# Altium schematic symbol library kmilo17pet-NSC_Interface.SchLib: 1433 symbols (part 19 of 51)
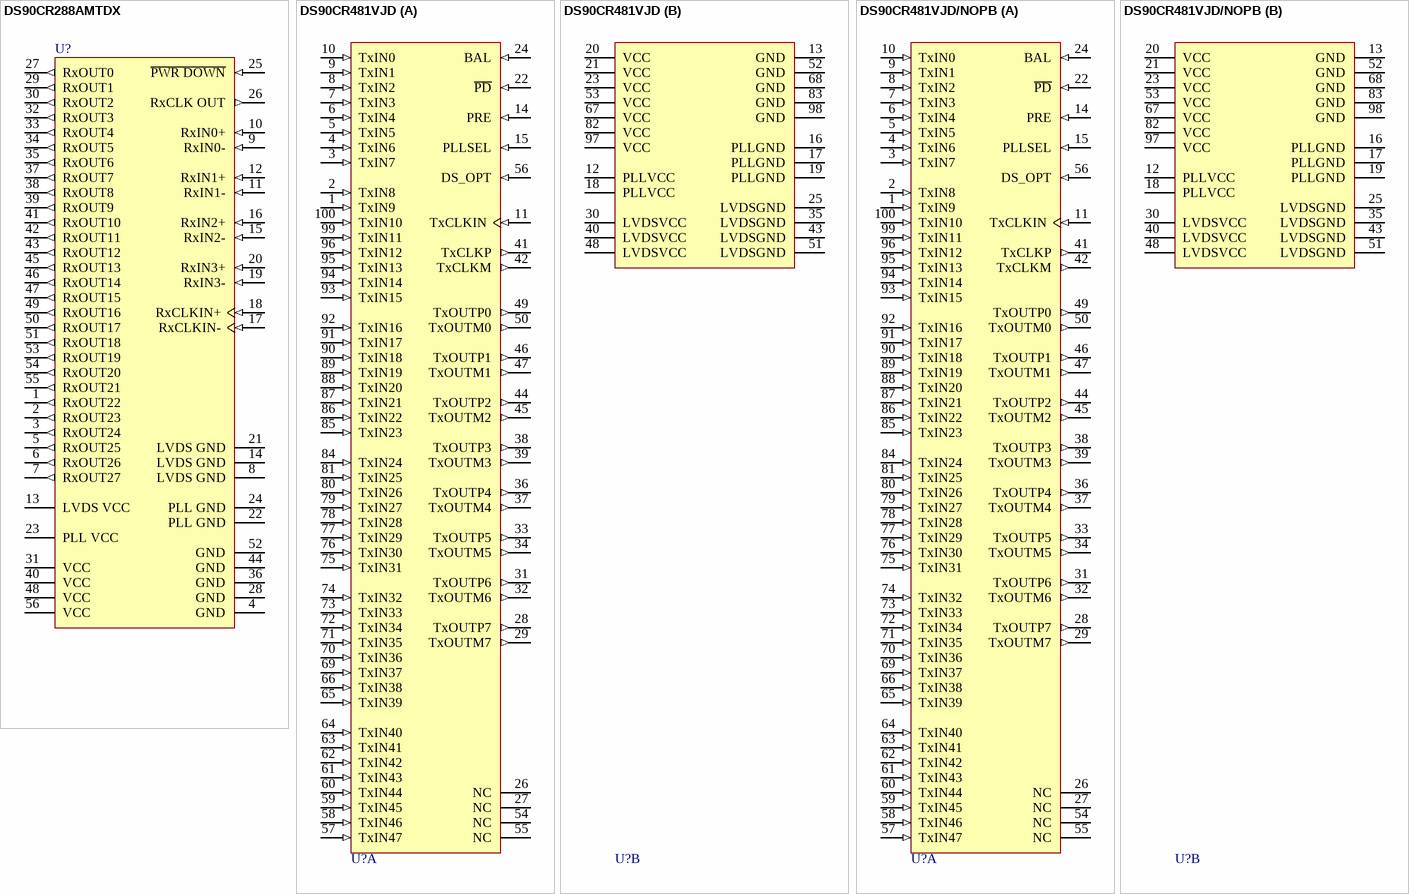
[diagram p142: symbols DS90CR288AMTDX to DS90CR481VJD/NOPB]

## DS90CR481VJD
designator U?
48-Bit LVDS Channel Link Serializer - 65 - 112 MHz, 100-pin TQFP; PartNumber: DS90CR481VJD; Manufacturer: National Semiconductor; PackageTopMarking: NS2ZXYYTTE#*DS90CR481VJD*BBBBB; PowerWise: N; CompType: Interface IC; High-Reliability: Y; DatasheetVersion: Jan-2006; PackageVersion: revC, May-2004; PackageReference: VJD100A; PackageDescription: TQFP, Jedec, Metric, 14 x 14 x 1.0mm, 100 Lead; RoHS: N; PinCount: 100; Code_JEDEC: MS-026-AED; ComponentLink1Description: Manufacturer URL; ComponentLink1URL: http://www.national.com/; ComponentLink2Description: DS90CR481 Datasheet; ComponentLink2URL: http://www.national.com/ds/DS/DS90CR481.pdf; ComponentLink3Description: DS90CR481 Web Page; ComponentLink3URL: http://www.national.com/pf/DS/DS90CR481.html; ComponentLink4Description: VJD100A Package Page; ComponentLink4URL: http://www.national.com/packaging/folders/vjd100a.html
footprint VJD100A_N (Thin QFP, 100-Leads, Body 14x14mm, Pitch 0.5mm, IPC Medium Density)
footprint VJD100A_L (Thin QFP, 100-Leads, Body 14x14mm, Pitch 0.5mm, IPC High Density)
footprint VJD100A_M (Thin QFP, 100-Leads, Body 14x14mm, Pitch 0.5mm, IPC Low Density)
part A pins: 1 TxIN9 (in), 2 TxIN8 (in), 3 TxIN7 (in), 4 TxIN6 (in), 5 TxIN5 (in), 6 TxIN4 (in), 7 TxIN3 (in), 8 TxIN2 (in), 9 TxIN1 (in), 10 TxIN0 (in), 11 TxCLKIN (in), 14 PRE (in), 15 PLLSEL (in), 22 ~{PD} (in), 24 BAL (in), 26 NC, 27 NC, 28 TxOUTP7 (out), 29 TxOUTM7 (out), 31 TxOUTP6 (out), 32 TxOUTM6 (out), 33 TxOUTP5 (out), 34 TxOUTM5 (out), 36 TxOUTP4 (out), 37 TxOUTM4 (out), 38 TxOUTP3 (out), 39 TxOUTM3 (out), 41 TxCLKP (out), 42 TxCLKM (out), 44 TxOUTP2 (out), 45 TxOUTM2 (out), 46 TxOUTP1 (out), 47 TxOUTM1 (out), 49 TxOUTP0 (out), 50 TxOUTM0 (out), 54 NC, 55 NC, 56 DS_OPT (in), 57 TxIN47 (in), 58 TxIN46 (in), 59 TxIN45 (in), 60 TxIN44 (in), 61 TxIN43 (in), 62 TxIN42 (in), 63 TxIN41 (in), 64 TxIN40 (in), 65 TxIN39 (in), 66 TxIN38 (in), 69 TxIN37 (in), 70 TxIN36 (in), 71 TxIN35 (in), 72 TxIN34 (in), 73 TxIN33 (in), 74 TxIN32 (in), 75 TxIN31 (in), 76 TxIN30 (in), 77 TxIN29 (in), 78 TxIN28 (in), 79 TxIN27 (in), 80 TxIN26 (in), 81 TxIN25 (in), 84 TxIN24 (in), 85 TxIN23 (in), 86 TxIN22 (in), 87 TxIN21 (in), 88 TxIN20 (in), 89 TxIN19 (in), 90 TxIN18 (in), 91 TxIN17 (in), 92 TxIN16 (in), 93 TxIN15 (in), 94 TxIN14 (in), 95 TxIN13 (in), 96 TxIN12 (in), 99 TxIN11 (in), 100 TxIN10 (in)
part B pins: 12 PLLVCC (power), 13 GND (power), 16 PLLGND (power), 17 PLLGND (power), 18 PLLVCC (power), 19 PLLGND (power), 20 VCC (power), 21 VCC (power), 23 VCC (power), 25 LVDSGND (power), 30 LVDSVCC (power), 35 LVDSGND (power), 40 LVDSVCC (power), 43 LVDSGND (power), 48 LVDSVCC (power), 51 LVDSGND (power), 52 GND (power), 53 VCC (power), 67 VCC (power), 68 GND (power), 82 VCC (power), 83 GND (power), 97 VCC (power), 98 GND (power)

## DS90CR481VJD/NOPB
designator U?
48-Bit LVDS Channel Link Serializer - 65 - 112 MHz, 100-pin TQFP, Pb-Free; PartNumber: DS90CR481VJD/NOPB; Manufacturer: National Semiconductor; PackageTopMarking: NS2ZXYYTTE#*DS90CR481VJD*BBBBB; PowerWise: N; CompType: Interface IC; High-Reliability: Y; DatasheetVersion: Jan-2006; PackageVersion: revC, May-2004; PackageReference: VJD100A; PackageDescription: TQFP, Jedec, Metric, 14 x 14 x 1.0mm, 100 Lead; RoHS: Y; PinCount: 100; Code_JEDEC: MS-026-AED; ComponentLink1Description: Manufacturer URL; ComponentLink1URL: http://www.national.com/; ComponentLink2Description: DS90CR481 Datasheet; ComponentLink2URL: http://www.national.com/ds/DS/DS90CR481.pdf; ComponentLink3Description: DS90CR481 Web Page; ComponentLink3URL: http://www.national.com/pf/DS/DS90CR481.html; ComponentLink4Description: VJD100A Package Page; ComponentLink4URL: http://www.national.com/packaging/folders/vjd100a.html
footprint VJD100A_N (Thin QFP, 100-Leads, Body 14x14mm, Pitch 0.5mm, IPC Medium Density)
footprint VJD100A_L (Thin QFP, 100-Leads, Body 14x14mm, Pitch 0.5mm, IPC High Density)
footprint VJD100A_M (Thin QFP, 100-Leads, Body 14x14mm, Pitch 0.5mm, IPC Low Density)
part A pins: 1 TxIN9 (in), 2 TxIN8 (in), 3 TxIN7 (in), 4 TxIN6 (in), 5 TxIN5 (in), 6 TxIN4 (in), 7 TxIN3 (in), 8 TxIN2 (in), 9 TxIN1 (in), 10 TxIN0 (in), 11 TxCLKIN (in), 14 PRE (in), 15 PLLSEL (in), 22 ~{PD} (in), 24 BAL (in), 26 NC, 27 NC, 28 TxOUTP7 (out), 29 TxOUTM7 (out), 31 TxOUTP6 (out), 32 TxOUTM6 (out), 33 TxOUTP5 (out), 34 TxOUTM5 (out), 36 TxOUTP4 (out), 37 TxOUTM4 (out), 38 TxOUTP3 (out), 39 TxOUTM3 (out), 41 TxCLKP (out), 42 TxCLKM (out), 44 TxOUTP2 (out), 45 TxOUTM2 (out), 46 TxOUTP1 (out), 47 TxOUTM1 (out), 49 TxOUTP0 (out), 50 TxOUTM0 (out), 54 NC, 55 NC, 56 DS_OPT (in), 57 TxIN47 (in), 58 TxIN46 (in), 59 TxIN45 (in), 60 TxIN44 (in), 61 TxIN43 (in), 62 TxIN42 (in), 63 TxIN41 (in), 64 TxIN40 (in), 65 TxIN39 (in), 66 TxIN38 (in), 69 TxIN37 (in), 70 TxIN36 (in), 71 TxIN35 (in), 72 TxIN34 (in), 73 TxIN33 (in), 74 TxIN32 (in), 75 TxIN31 (in), 76 TxIN30 (in), 77 TxIN29 (in), 78 TxIN28 (in), 79 TxIN27 (in), 80 TxIN26 (in), 81 TxIN25 (in), 84 TxIN24 (in), 85 TxIN23 (in), 86 TxIN22 (in), 87 TxIN21 (in), 88 TxIN20 (in), 89 TxIN19 (in), 90 TxIN18 (in), 91 TxIN17 (in), 92 TxIN16 (in), 93 TxIN15 (in), 94 TxIN14 (in), 95 TxIN13 (in), 96 TxIN12 (in), 99 TxIN11 (in), 100 TxIN10 (in)
part B pins: 12 PLLVCC (power), 13 GND (power), 16 PLLGND (power), 17 PLLGND (power), 18 PLLVCC (power), 19 PLLGND (power), 20 VCC (power), 21 VCC (power), 23 VCC (power), 25 LVDSGND (power), 30 LVDSVCC (power), 35 LVDSGND (power), 40 LVDSVCC (power), 43 LVDSGND (power), 48 LVDSVCC (power), 51 LVDSGND (power), 52 GND (power), 53 VCC (power), 67 VCC (power), 68 GND (power), 82 VCC (power), 83 GND (power), 97 VCC (power), 98 GND (power)

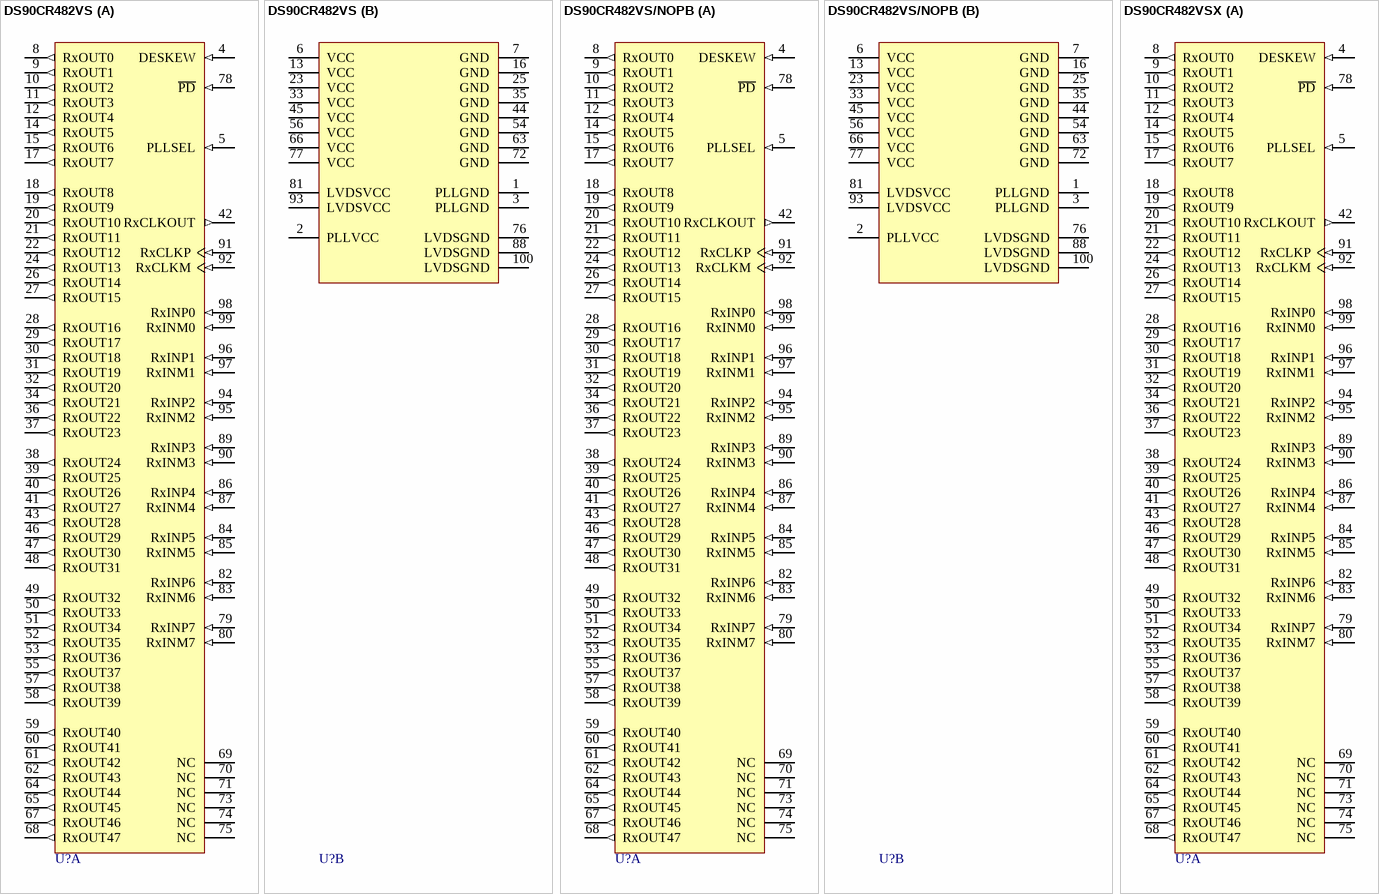
[diagram p49: symbols DS90CR482VS to DS90CR482VSX]

## DS90CR482VS
designator U?
48-Bit LVDS Channel Link Deserializer - 65 - 112 MHz, 100-pin TQFP; PartNumber: DS90CR482VS; Manufacturer: National Semiconductor; PackageTopMarking: NS2ZXYYTTE#*DS90CR482VS*BBBBB; PowerWise: N; CompType: Interface IC; High-Reliability: Y; DatasheetVersion: Jan-2006; PackageVersion: revC, May-2004; PackageReference: VJD100A; PackageDescription: TQFP, Jedec, Metric, 14 x 14 x 1.0mm, 100 Lead; RoHS: N; PinCount: 100; Code_JEDEC: MS-026-AED; ComponentLink1Description: Manufacturer URL; ComponentLink1URL: http://www.national.com/; ComponentLink2Description: DS90CR482 Datasheet; ComponentLink2URL: http://www.national.com/ds/DS/DS90CR482.pdf; ComponentLink3Description: DS90CR482 Web Page; ComponentLink3URL: http://www.national.com/pf/DS/DS90CR482.html; ComponentLink4Description: VJD100A Package Page; ComponentLink4URL: http://www.national.com/packaging/folders/vjd100a.html
footprint VJD100A_N (Thin QFP, 100-Leads, Body 14x14mm, Pitch 0.5mm, IPC Medium Density)
footprint VJD100A_L (Thin QFP, 100-Leads, Body 14x14mm, Pitch 0.5mm, IPC High Density)
footprint VJD100A_M (Thin QFP, 100-Leads, Body 14x14mm, Pitch 0.5mm, IPC Low Density)
part A pins: 4 DESKEW (in), 5 PLLSEL (in), 8 RxOUT0 (out), 9 RxOUT1 (out), 10 RxOUT2 (out), 11 RxOUT3 (out), 12 RxOUT4 (out), 14 RxOUT5 (out), 15 RxOUT6 (out), 17 RxOUT7 (out), 18 RxOUT8 (out), 19 RxOUT9 (out), 20 RxOUT10 (out), 21 RxOUT11 (out), 22 RxOUT12 (out), 24 RxOUT13 (out), 26 RxOUT14 (out), 27 RxOUT15 (out), 28 RxOUT16 (out), 29 RxOUT17 (out), 30 RxOUT18 (out), 31 RxOUT19 (out), 32 RxOUT20 (out), 34 RxOUT21 (out), 36 RxOUT22 (out), 37 RxOUT23 (out), 38 RxOUT24 (out), 39 RxOUT25 (out), 40 RxOUT26 (out), 41 RxOUT27 (out), 42 RxCLKOUT (out), 43 RxOUT28 (out), 46 RxOUT29 (out), 47 RxOUT30 (out), 48 RxOUT31 (out), 49 RxOUT32 (out), 50 RxOUT33 (out), 51 RxOUT34 (out), 52 RxOUT35 (out), 53 RxOUT36 (out), 55 RxOUT37 (out), 57 RxOUT38 (out), 58 RxOUT39 (out), 59 RxOUT40 (out), 60 RxOUT41 (out), 61 RxOUT42 (out), 62 RxOUT43 (out), 64 RxOUT44 (out), 65 RxOUT45 (out), 67 RxOUT46 (out), 68 RxOUT47 (out), 69 NC, 70 NC, 71 NC, 73 NC, 74 NC, 75 NC, 78 ~{PD} (in), 79 RxINP7 (in), 80 RxINM7 (in), 82 RxINP6 (in), 83 RxINM6 (in), 84 RxINP5 (in), 85 RxINM5 (in), 86 RxINP4 (in), 87 RxINM4 (in), 89 RxINP3 (in), 90 RxINM3 (in), 91 RxCLKP (in), 92 RxCLKM (in), 94 RxINP2 (in), 95 RxINM2 (in), 96 RxINP1 (in), 97 RxINM1 (in), 98 RxINP0 (in), 99 RxINM0 (in)
part B pins: 1 PLLGND (power), 2 PLLVCC (power), 3 PLLGND (power), 6 VCC (power), 7 GND (power), 13 VCC (power), 16 GND (power), 23 VCC (power), 25 GND (power), 33 VCC (power), 35 GND (power), 44 GND (power), 45 VCC (power), 54 GND (power), 56 VCC (power), 63 GND (power), 66 VCC (power), 72 GND (power), 76 LVDSGND (power), 77 VCC (power), 81 LVDSVCC (power), 88 LVDSGND (power), 93 LVDSVCC (power), 100 LVDSGND (power)

## DS90CR482VS/NOPB
designator U?
48-Bit LVDS Channel Link Deserializer - 65 - 112 MHz, 100-pin TQFP, Pb-Free; PartNumber: DS90CR482VS/NOPB; Manufacturer: National Semiconductor; PackageTopMarking: NS2ZXYYTTE#*DS90CR482VS*BBBBB; PowerWise: N; CompType: Interface IC; High-Reliability: Y; DatasheetVersion: Jan-2006; PackageVersion: revC, May-2004; PackageReference: VJD100A; PackageDescription: TQFP, Jedec, Metric, 14 x 14 x 1.0mm, 100 Lead; RoHS: Y; PinCount: 100; Code_JEDEC: MS-026-AED; ComponentLink1Description: Manufacturer URL; ComponentLink1URL: http://www.national.com/; ComponentLink2Description: DS90CR482 Datasheet; ComponentLink2URL: http://www.national.com/ds/DS/DS90CR482.pdf; ComponentLink3Description: DS90CR482 Web Page; ComponentLink3URL: http://www.national.com/pf/DS/DS90CR482.html; ComponentLink4Description: VJD100A Package Page; ComponentLink4URL: http://www.national.com/packaging/folders/vjd100a.html
footprint VJD100A_N (Thin QFP, 100-Leads, Body 14x14mm, Pitch 0.5mm, IPC Medium Density)
footprint VJD100A_L (Thin QFP, 100-Leads, Body 14x14mm, Pitch 0.5mm, IPC High Density)
footprint VJD100A_M (Thin QFP, 100-Leads, Body 14x14mm, Pitch 0.5mm, IPC Low Density)
part A pins: 4 DESKEW (in), 5 PLLSEL (in), 8 RxOUT0 (out), 9 RxOUT1 (out), 10 RxOUT2 (out), 11 RxOUT3 (out), 12 RxOUT4 (out), 14 RxOUT5 (out), 15 RxOUT6 (out), 17 RxOUT7 (out), 18 RxOUT8 (out), 19 RxOUT9 (out), 20 RxOUT10 (out), 21 RxOUT11 (out), 22 RxOUT12 (out), 24 RxOUT13 (out), 26 RxOUT14 (out), 27 RxOUT15 (out), 28 RxOUT16 (out), 29 RxOUT17 (out), 30 RxOUT18 (out), 31 RxOUT19 (out), 32 RxOUT20 (out), 34 RxOUT21 (out), 36 RxOUT22 (out), 37 RxOUT23 (out), 38 RxOUT24 (out), 39 RxOUT25 (out), 40 RxOUT26 (out), 41 RxOUT27 (out), 42 RxCLKOUT (out), 43 RxOUT28 (out), 46 RxOUT29 (out), 47 RxOUT30 (out), 48 RxOUT31 (out), 49 RxOUT32 (out), 50 RxOUT33 (out), 51 RxOUT34 (out), 52 RxOUT35 (out), 53 RxOUT36 (out), 55 RxOUT37 (out), 57 RxOUT38 (out), 58 RxOUT39 (out), 59 RxOUT40 (out), 60 RxOUT41 (out), 61 RxOUT42 (out), 62 RxOUT43 (out), 64 RxOUT44 (out), 65 RxOUT45 (out), 67 RxOUT46 (out), 68 RxOUT47 (out), 69 NC, 70 NC, 71 NC, 73 NC, 74 NC, 75 NC, 78 ~{PD} (in), 79 RxINP7 (in), 80 RxINM7 (in), 82 RxINP6 (in), 83 RxINM6 (in), 84 RxINP5 (in), 85 RxINM5 (in), 86 RxINP4 (in), 87 RxINM4 (in), 89 RxINP3 (in), 90 RxINM3 (in), 91 RxCLKP (in), 92 RxCLKM (in), 94 RxINP2 (in), 95 RxINM2 (in), 96 RxINP1 (in), 97 RxINM1 (in), 98 RxINP0 (in), 99 RxINM0 (in)
part B pins: 1 PLLGND (power), 2 PLLVCC (power), 3 PLLGND (power), 6 VCC (power), 7 GND (power), 13 VCC (power), 16 GND (power), 23 VCC (power), 25 GND (power), 33 VCC (power), 35 GND (power), 44 GND (power), 45 VCC (power), 54 GND (power), 56 VCC (power), 63 GND (power), 66 VCC (power), 72 GND (power), 76 LVDSGND (power), 77 VCC (power), 81 LVDSVCC (power), 88 LVDSGND (power), 93 LVDSVCC (power), 100 LVDSGND (power)

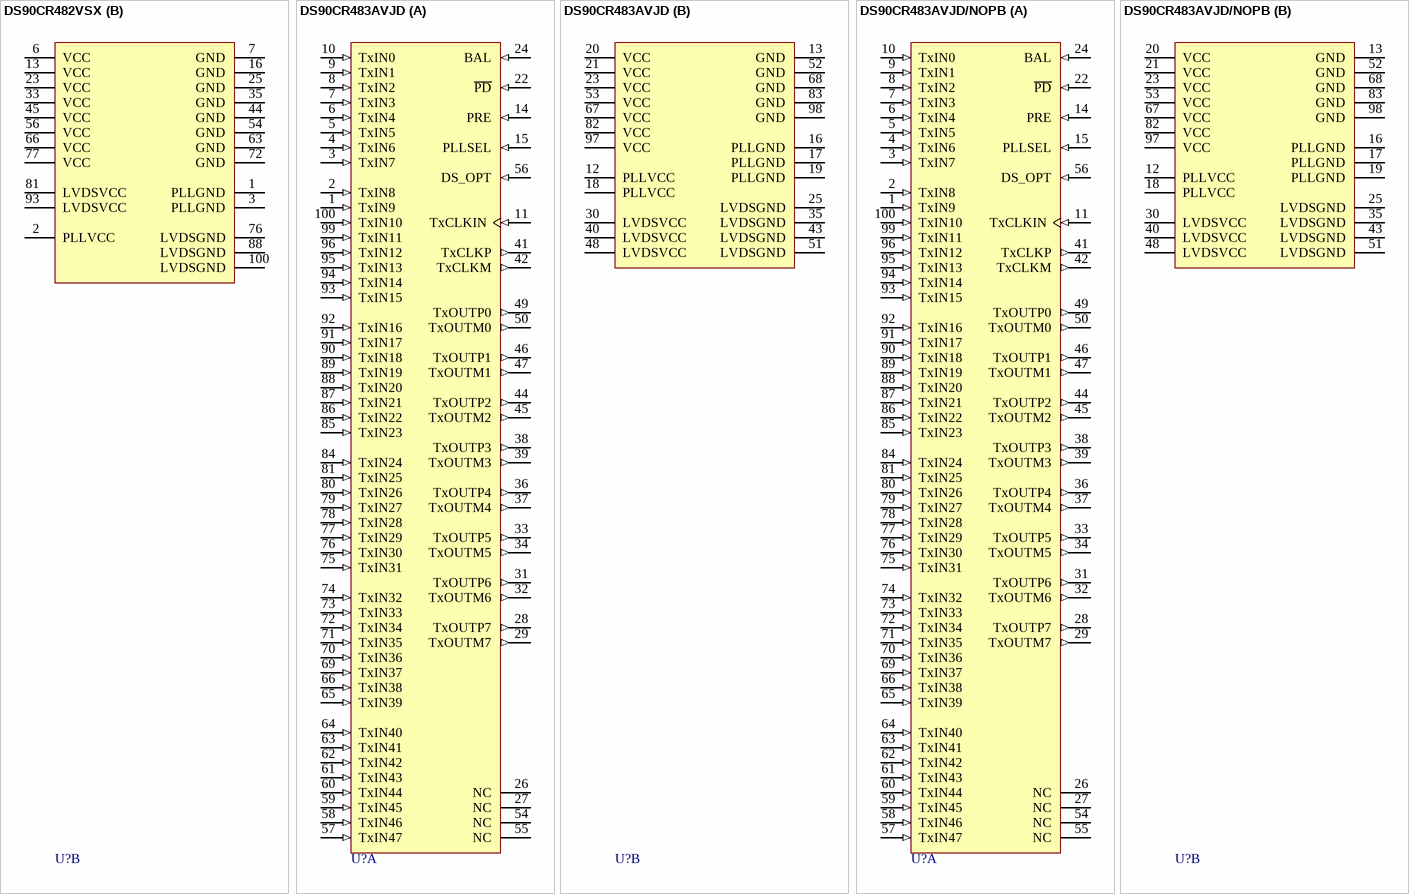
[diagram p50: symbols DS90CR482VSX to DS90CR483AVJD/NOPB]

## DS90CR482VSX
designator U?
48-Bit LVDS Channel Link Deserializer - 65 - 112 MHz, 100-pin TQFP; PartNumber: DS90CR482VSX; Manufacturer: National Semiconductor; PackageTopMarking: NS2ZXYYTTE#*DS90CR482VS*BBBBB; PowerWise: N; CompType: Interface IC; High-Reliability: Y; DatasheetVersion: Jan-2006; PackageVersion: revC, May-2004; PackageReference: VJD100A; PackageDescription: TQFP, Jedec, Metric, 14 x 14 x 1.0mm, 100 Lead; RoHS: N; PinCount: 100; Code_JEDEC: MS-026-AED; ComponentLink1Description: Manufacturer URL; ComponentLink1URL: http://www.national.com/; ComponentLink2Description: DS90CR482 Datasheet; ComponentLink2URL: http://www.national.com/ds/DS/DS90CR482.pdf; ComponentLink3Description: DS90CR482 Web Page; ComponentLink3URL: http://www.national.com/pf/DS/DS90CR482.html; ComponentLink4Description: VJD100A Package Page; ComponentLink4URL: http://www.national.com/packaging/folders/vjd100a.html
footprint VJD100A_N (Thin QFP, 100-Leads, Body 14x14mm, Pitch 0.5mm, IPC Medium Density)
footprint VJD100A_L (Thin QFP, 100-Leads, Body 14x14mm, Pitch 0.5mm, IPC High Density)
footprint VJD100A_M (Thin QFP, 100-Leads, Body 14x14mm, Pitch 0.5mm, IPC Low Density)
part A pins: 4 DESKEW (in), 5 PLLSEL (in), 8 RxOUT0 (out), 9 RxOUT1 (out), 10 RxOUT2 (out), 11 RxOUT3 (out), 12 RxOUT4 (out), 14 RxOUT5 (out), 15 RxOUT6 (out), 17 RxOUT7 (out), 18 RxOUT8 (out), 19 RxOUT9 (out), 20 RxOUT10 (out), 21 RxOUT11 (out), 22 RxOUT12 (out), 24 RxOUT13 (out), 26 RxOUT14 (out), 27 RxOUT15 (out), 28 RxOUT16 (out), 29 RxOUT17 (out), 30 RxOUT18 (out), 31 RxOUT19 (out), 32 RxOUT20 (out), 34 RxOUT21 (out), 36 RxOUT22 (out), 37 RxOUT23 (out), 38 RxOUT24 (out), 39 RxOUT25 (out), 40 RxOUT26 (out), 41 RxOUT27 (out), 42 RxCLKOUT (out), 43 RxOUT28 (out), 46 RxOUT29 (out), 47 RxOUT30 (out), 48 RxOUT31 (out), 49 RxOUT32 (out), 50 RxOUT33 (out), 51 RxOUT34 (out), 52 RxOUT35 (out), 53 RxOUT36 (out), 55 RxOUT37 (out), 57 RxOUT38 (out), 58 RxOUT39 (out), 59 RxOUT40 (out), 60 RxOUT41 (out), 61 RxOUT42 (out), 62 RxOUT43 (out), 64 RxOUT44 (out), 65 RxOUT45 (out), 67 RxOUT46 (out), 68 RxOUT47 (out), 69 NC, 70 NC, 71 NC, 73 NC, 74 NC, 75 NC, 78 ~{PD} (in), 79 RxINP7 (in), 80 RxINM7 (in), 82 RxINP6 (in), 83 RxINM6 (in), 84 RxINP5 (in), 85 RxINM5 (in), 86 RxINP4 (in), 87 RxINM4 (in), 89 RxINP3 (in), 90 RxINM3 (in), 91 RxCLKP (in), 92 RxCLKM (in), 94 RxINP2 (in), 95 RxINM2 (in), 96 RxINP1 (in), 97 RxINM1 (in), 98 RxINP0 (in), 99 RxINM0 (in)
part B pins: 1 PLLGND (power), 2 PLLVCC (power), 3 PLLGND (power), 6 VCC (power), 7 GND (power), 13 VCC (power), 16 GND (power), 23 VCC (power), 25 GND (power), 33 VCC (power), 35 GND (power), 44 GND (power), 45 VCC (power), 54 GND (power), 56 VCC (power), 63 GND (power), 66 VCC (power), 72 GND (power), 76 LVDSGND (power), 77 VCC (power), 81 LVDSVCC (power), 88 LVDSGND (power), 93 LVDSVCC (power), 100 LVDSGND (power)

## DS90CR483AVJD
designator U?
48-Bit LVDS Channel Link SER/DES - 33 - 112 MHz, 100-pin TQFP; PartNumber: DS90CR483AVJD; Manufacturer: National Semiconductor; PackageTopMarking: NS2ZXYYTT*DS90CR483AVJD*BBBBB; PowerWise: N; CompType: Interface IC; High-Reliability: Y; DatasheetVersion: Apr-2008; PackageVersion: revC, May-2004; PackageReference: VJD100A; PackageDescription: TQFP, Jedec, Metric, 14 x 14 x 1.0mm, 100 Lead; RoHS: Y; PinCount: 100; Code_JEDEC: MS-026-AED; ComponentLink1Description: Manufacturer URL; ComponentLink1URL: http://www.national.com/; ComponentLink2Description: DS90CR483A Datasheet; ComponentLink2URL: http://www.national.com/ds/DS/DS90CR483A.pdf; ComponentLink3Description: DS90CR483A Web Page; ComponentLink3URL: http://www.national.com/pf/DS/DS90CR483A.html; ComponentLink4Description: VJD100A Package Page; ComponentLink4URL: http://www.national.com/packaging/folders/vjd100a.html
footprint VJD100A_N (Thin QFP, 100-Leads, Body 14x14mm, Pitch 0.5mm, IPC Medium Density)
footprint VJD100A_L (Thin QFP, 100-Leads, Body 14x14mm, Pitch 0.5mm, IPC High Density)
footprint VJD100A_M (Thin QFP, 100-Leads, Body 14x14mm, Pitch 0.5mm, IPC Low Density)
part A pins: 1 TxIN9 (in), 2 TxIN8 (in), 3 TxIN7 (in), 4 TxIN6 (in), 5 TxIN5 (in), 6 TxIN4 (in), 7 TxIN3 (in), 8 TxIN2 (in), 9 TxIN1 (in), 10 TxIN0 (in), 11 TxCLKIN (in), 14 PRE (in), 15 PLLSEL (in), 22 ~{PD} (in), 24 BAL (in), 26 NC, 27 NC, 28 TxOUTP7 (out), 29 TxOUTM7 (out), 31 TxOUTP6 (out), 32 TxOUTM6 (out), 33 TxOUTP5 (out), 34 TxOUTM5 (out), 36 TxOUTP4 (out), 37 TxOUTM4 (out), 38 TxOUTP3 (out), 39 TxOUTM3 (out), 41 TxCLKP (out), 42 TxCLKM (out), 44 TxOUTP2 (out), 45 TxOUTM2 (out), 46 TxOUTP1 (out), 47 TxOUTM1 (out), 49 TxOUTP0 (out), 50 TxOUTM0 (out), 54 NC, 55 NC, 56 DS_OPT (in), 57 TxIN47 (in), 58 TxIN46 (in), 59 TxIN45 (in), 60 TxIN44 (in), 61 TxIN43 (in), 62 TxIN42 (in), 63 TxIN41 (in), 64 TxIN40 (in), 65 TxIN39 (in), 66 TxIN38 (in), 69 TxIN37 (in), 70 TxIN36 (in), 71 TxIN35 (in), 72 TxIN34 (in), 73 TxIN33 (in), 74 TxIN32 (in), 75 TxIN31 (in), 76 TxIN30 (in), 77 TxIN29 (in), 78 TxIN28 (in), 79 TxIN27 (in), 80 TxIN26 (in), 81 TxIN25 (in), 84 TxIN24 (in), 85 TxIN23 (in), 86 TxIN22 (in), 87 TxIN21 (in), 88 TxIN20 (in), 89 TxIN19 (in), 90 TxIN18 (in), 91 TxIN17 (in), 92 TxIN16 (in), 93 TxIN15 (in), 94 TxIN14 (in), 95 TxIN13 (in), 96 TxIN12 (in), 99 TxIN11 (in), 100 TxIN10 (in)
part B pins: 12 PLLVCC (power), 13 GND (power), 16 PLLGND (power), 17 PLLGND (power), 18 PLLVCC (power), 19 PLLGND (power), 20 VCC (power), 21 VCC (power), 23 VCC (power), 25 LVDSGND (power), 30 LVDSVCC (power), 35 LVDSGND (power), 40 LVDSVCC (power), 43 LVDSGND (power), 48 LVDSVCC (power), 51 LVDSGND (power), 52 GND (power), 53 VCC (power), 67 VCC (power), 68 GND (power), 82 VCC (power), 83 GND (power), 97 VCC (power), 98 GND (power)

## DS90CR483AVJD/NOPB
designator U?
48-Bit LVDS Channel Link SER/DES - 33 - 112 MHz, 100-pin TQFP, Pb-Free; PartNumber: DS90CR483AVJD/NOPB; Manufacturer: National Semiconductor; PackageTopMarking: NS2ZXYYTTE#*DS90CR483AVJD*BBBBB; PowerWise: N; CompType: Interface IC; High-Reliability: Y; DatasheetVersion: Apr-2008; PackageVersion: revC, May-2004; PackageReference: VJD100A; PackageDescription: TQFP, Jedec, Metric, 14 x 14 x 1.0mm, 100 Lead; RoHS: Y; PinCount: 100; Code_JEDEC: MS-026-AED; ComponentLink1Description: Manufacturer URL; ComponentLink1URL: http://www.national.com/; ComponentLink2Description: DS90CR483A Datasheet; ComponentLink2URL: http://www.national.com/ds/DS/DS90CR483A.pdf; ComponentLink3Description: DS90CR483A Web Page; ComponentLink3URL: http://www.national.com/pf/DS/DS90CR483A.html; ComponentLink4Description: VJD100A Package Page; ComponentLink4URL: http://www.national.com/packaging/folders/vjd100a.html
footprint VJD100A_N (Thin QFP, 100-Leads, Body 14x14mm, Pitch 0.5mm, IPC Medium Density)
footprint VJD100A_L (Thin QFP, 100-Leads, Body 14x14mm, Pitch 0.5mm, IPC High Density)
footprint VJD100A_M (Thin QFP, 100-Leads, Body 14x14mm, Pitch 0.5mm, IPC Low Density)
part A pins: 1 TxIN9 (in), 2 TxIN8 (in), 3 TxIN7 (in), 4 TxIN6 (in), 5 TxIN5 (in), 6 TxIN4 (in), 7 TxIN3 (in), 8 TxIN2 (in), 9 TxIN1 (in), 10 TxIN0 (in), 11 TxCLKIN (in), 14 PRE (in), 15 PLLSEL (in), 22 ~{PD} (in), 24 BAL (in), 26 NC, 27 NC, 28 TxOUTP7 (out), 29 TxOUTM7 (out), 31 TxOUTP6 (out), 32 TxOUTM6 (out), 33 TxOUTP5 (out), 34 TxOUTM5 (out), 36 TxOUTP4 (out), 37 TxOUTM4 (out), 38 TxOUTP3 (out), 39 TxOUTM3 (out), 41 TxCLKP (out), 42 TxCLKM (out), 44 TxOUTP2 (out), 45 TxOUTM2 (out), 46 TxOUTP1 (out), 47 TxOUTM1 (out), 49 TxOUTP0 (out), 50 TxOUTM0 (out), 54 NC, 55 NC, 56 DS_OPT (in), 57 TxIN47 (in), 58 TxIN46 (in), 59 TxIN45 (in), 60 TxIN44 (in), 61 TxIN43 (in), 62 TxIN42 (in), 63 TxIN41 (in), 64 TxIN40 (in), 65 TxIN39 (in), 66 TxIN38 (in), 69 TxIN37 (in), 70 TxIN36 (in), 71 TxIN35 (in), 72 TxIN34 (in), 73 TxIN33 (in), 74 TxIN32 (in), 75 TxIN31 (in), 76 TxIN30 (in), 77 TxIN29 (in), 78 TxIN28 (in), 79 TxIN27 (in), 80 TxIN26 (in), 81 TxIN25 (in), 84 TxIN24 (in), 85 TxIN23 (in), 86 TxIN22 (in), 87 TxIN21 (in), 88 TxIN20 (in), 89 TxIN19 (in), 90 TxIN18 (in), 91 TxIN17 (in), 92 TxIN16 (in), 93 TxIN15 (in), 94 TxIN14 (in), 95 TxIN13 (in), 96 TxIN12 (in), 99 TxIN11 (in), 100 TxIN10 (in)
part B pins: 12 PLLVCC (power), 13 GND (power), 16 PLLGND (power), 17 PLLGND (power), 18 PLLVCC (power), 19 PLLGND (power), 20 VCC (power), 21 VCC (power), 23 VCC (power), 25 LVDSGND (power), 30 LVDSVCC (power), 35 LVDSGND (power), 40 LVDSVCC (power), 43 LVDSGND (power), 48 LVDSVCC (power), 51 LVDSGND (power), 52 GND (power), 53 VCC (power), 67 VCC (power), 68 GND (power), 82 VCC (power), 83 GND (power), 97 VCC (power), 98 GND (power)

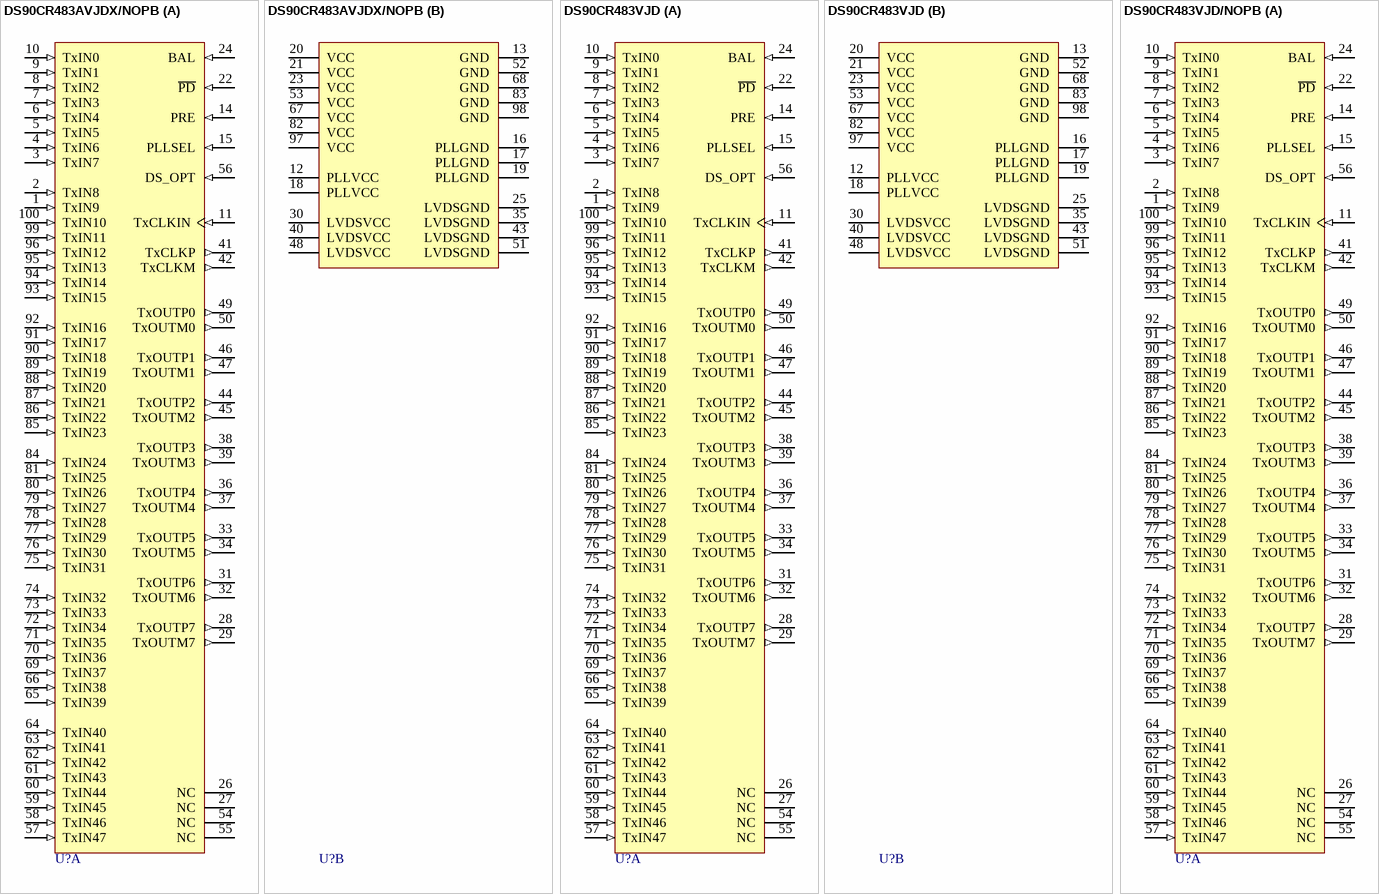
[diagram p51: symbols DS90CR483AVJDX/NOPB to DS90CR483VJD/NOPB]

## DS90CR483AVJDX/NOPB
designator U?
48-Bit LVDS Channel Link SER/DES - 33 - 112 MHz, 100-pin TQFP, Pb-Free; PartNumber: DS90CR483AVJDX/NOPB; Manufacturer: National Semiconductor; PackageTopMarking: NS2ZXYYTTE#*DS90CR483AVJD*BBBBB; PowerWise: N; CompType: Interface IC; High-Reliability: Y; DatasheetVersion: Apr-2008; PackageVersion: revC, May-2004; PackageReference: VJD100A; PackageDescription: TQFP, Jedec, Metric, 14 x 14 x 1.0mm, 100 Lead; RoHS: Y; PinCount: 100; Code_JEDEC: MS-026-AED; ComponentLink1Description: Manufacturer URL; ComponentLink1URL: http://www.national.com/; ComponentLink2Description: DS90CR483A Datasheet; ComponentLink2URL: http://www.national.com/ds/DS/DS90CR483A.pdf; ComponentLink3Description: DS90CR483A Web Page; ComponentLink3URL: http://www.national.com/pf/DS/DS90CR483A.html; ComponentLink4Description: VJD100A Package Page; ComponentLink4URL: http://www.national.com/packaging/folders/vjd100a.html
footprint VJD100A_N (Thin QFP, 100-Leads, Body 14x14mm, Pitch 0.5mm, IPC Medium Density)
footprint VJD100A_L (Thin QFP, 100-Leads, Body 14x14mm, Pitch 0.5mm, IPC High Density)
footprint VJD100A_M (Thin QFP, 100-Leads, Body 14x14mm, Pitch 0.5mm, IPC Low Density)
part A pins: 1 TxIN9 (in), 2 TxIN8 (in), 3 TxIN7 (in), 4 TxIN6 (in), 5 TxIN5 (in), 6 TxIN4 (in), 7 TxIN3 (in), 8 TxIN2 (in), 9 TxIN1 (in), 10 TxIN0 (in), 11 TxCLKIN (in), 14 PRE (in), 15 PLLSEL (in), 22 ~{PD} (in), 24 BAL (in), 26 NC, 27 NC, 28 TxOUTP7 (out), 29 TxOUTM7 (out), 31 TxOUTP6 (out), 32 TxOUTM6 (out), 33 TxOUTP5 (out), 34 TxOUTM5 (out), 36 TxOUTP4 (out), 37 TxOUTM4 (out), 38 TxOUTP3 (out), 39 TxOUTM3 (out), 41 TxCLKP (out), 42 TxCLKM (out), 44 TxOUTP2 (out), 45 TxOUTM2 (out), 46 TxOUTP1 (out), 47 TxOUTM1 (out), 49 TxOUTP0 (out), 50 TxOUTM0 (out), 54 NC, 55 NC, 56 DS_OPT (in), 57 TxIN47 (in), 58 TxIN46 (in), 59 TxIN45 (in), 60 TxIN44 (in), 61 TxIN43 (in), 62 TxIN42 (in), 63 TxIN41 (in), 64 TxIN40 (in), 65 TxIN39 (in), 66 TxIN38 (in), 69 TxIN37 (in), 70 TxIN36 (in), 71 TxIN35 (in), 72 TxIN34 (in), 73 TxIN33 (in), 74 TxIN32 (in), 75 TxIN31 (in), 76 TxIN30 (in), 77 TxIN29 (in), 78 TxIN28 (in), 79 TxIN27 (in), 80 TxIN26 (in), 81 TxIN25 (in), 84 TxIN24 (in), 85 TxIN23 (in), 86 TxIN22 (in), 87 TxIN21 (in), 88 TxIN20 (in), 89 TxIN19 (in), 90 TxIN18 (in), 91 TxIN17 (in), 92 TxIN16 (in), 93 TxIN15 (in), 94 TxIN14 (in), 95 TxIN13 (in), 96 TxIN12 (in), 99 TxIN11 (in), 100 TxIN10 (in)
part B pins: 12 PLLVCC (power), 13 GND (power), 16 PLLGND (power), 17 PLLGND (power), 18 PLLVCC (power), 19 PLLGND (power), 20 VCC (power), 21 VCC (power), 23 VCC (power), 25 LVDSGND (power), 30 LVDSVCC (power), 35 LVDSGND (power), 40 LVDSVCC (power), 43 LVDSGND (power), 48 LVDSVCC (power), 51 LVDSGND (power), 52 GND (power), 53 VCC (power), 67 VCC (power), 68 GND (power), 82 VCC (power), 83 GND (power), 97 VCC (power), 98 GND (power)

## DS90CR483VJD
designator U?
48-Bit Channel Link Serializer - 33-112MHz, 100-pin TQFP; PartNumber: DS90CR483VJD; Manufacturer: National Semiconductor; PackageTopMarking: NS2ZXYYTTE#*DS90CR483VJD*BBBBB; PowerWise: N; CompType: Interface IC; High-Reliability: Y; DatasheetVersion: Mar-2004; PackageVersion: revC, May-2004; PackageReference: VJD100A; PackageDescription: TQFP, Jedec, Metric, 14 x 14 x 1.0mm, 100 Lead; RoHS: N; PinCount: 100; Code_JEDEC: MS-026-AED; ComponentLink1Description: Manufacturer URL; ComponentLink1URL: http://www.national.com/; ComponentLink2Description: DS90CR483 Datasheet; ComponentLink2URL: http://www.national.com/ds/DS/DS90CR483.pdf; ComponentLink3Description: DS90CR483 Web Page; ComponentLink3URL: http://www.national.com/pf/DS/DS90CR483.html; ComponentLink4Description: VJD100A Package Page; ComponentLink4URL: http://www.national.com/packaging/folders/vjd100a.html
footprint VJD100A_N (Thin QFP, 100-Leads, Body 14x14mm, Pitch 0.5mm, IPC Medium Density)
footprint VJD100A_L (Thin QFP, 100-Leads, Body 14x14mm, Pitch 0.5mm, IPC High Density)
footprint VJD100A_M (Thin QFP, 100-Leads, Body 14x14mm, Pitch 0.5mm, IPC Low Density)
part A pins: 1 TxIN9 (in), 2 TxIN8 (in), 3 TxIN7 (in), 4 TxIN6 (in), 5 TxIN5 (in), 6 TxIN4 (in), 7 TxIN3 (in), 8 TxIN2 (in), 9 TxIN1 (in), 10 TxIN0 (in), 11 TxCLKIN (in), 14 PRE (in), 15 PLLSEL (in), 22 ~{PD} (in), 24 BAL (in), 26 NC, 27 NC, 28 TxOUTP7 (out), 29 TxOUTM7 (out), 31 TxOUTP6 (out), 32 TxOUTM6 (out), 33 TxOUTP5 (out), 34 TxOUTM5 (out), 36 TxOUTP4 (out), 37 TxOUTM4 (out), 38 TxOUTP3 (out), 39 TxOUTM3 (out), 41 TxCLKP (out), 42 TxCLKM (out), 44 TxOUTP2 (out), 45 TxOUTM2 (out), 46 TxOUTP1 (out), 47 TxOUTM1 (out), 49 TxOUTP0 (out), 50 TxOUTM0 (out), 54 NC, 55 NC, 56 DS_OPT (in), 57 TxIN47 (in), 58 TxIN46 (in), 59 TxIN45 (in), 60 TxIN44 (in), 61 TxIN43 (in), 62 TxIN42 (in), 63 TxIN41 (in), 64 TxIN40 (in), 65 TxIN39 (in), 66 TxIN38 (in), 69 TxIN37 (in), 70 TxIN36 (in), 71 TxIN35 (in), 72 TxIN34 (in), 73 TxIN33 (in), 74 TxIN32 (in), 75 TxIN31 (in), 76 TxIN30 (in), 77 TxIN29 (in), 78 TxIN28 (in), 79 TxIN27 (in), 80 TxIN26 (in), 81 TxIN25 (in), 84 TxIN24 (in), 85 TxIN23 (in), 86 TxIN22 (in), 87 TxIN21 (in), 88 TxIN20 (in), 89 TxIN19 (in), 90 TxIN18 (in), 91 TxIN17 (in), 92 TxIN16 (in), 93 TxIN15 (in), 94 TxIN14 (in), 95 TxIN13 (in), 96 TxIN12 (in), 99 TxIN11 (in), 100 TxIN10 (in)
part B pins: 12 PLLVCC (power), 13 GND (power), 16 PLLGND (power), 17 PLLGND (power), 18 PLLVCC (power), 19 PLLGND (power), 20 VCC (power), 21 VCC (power), 23 VCC (power), 25 LVDSGND (power), 30 LVDSVCC (power), 35 LVDSGND (power), 40 LVDSVCC (power), 43 LVDSGND (power), 48 LVDSVCC (power), 51 LVDSGND (power), 52 GND (power), 53 VCC (power), 67 VCC (power), 68 GND (power), 82 VCC (power), 83 GND (power), 97 VCC (power), 98 GND (power)

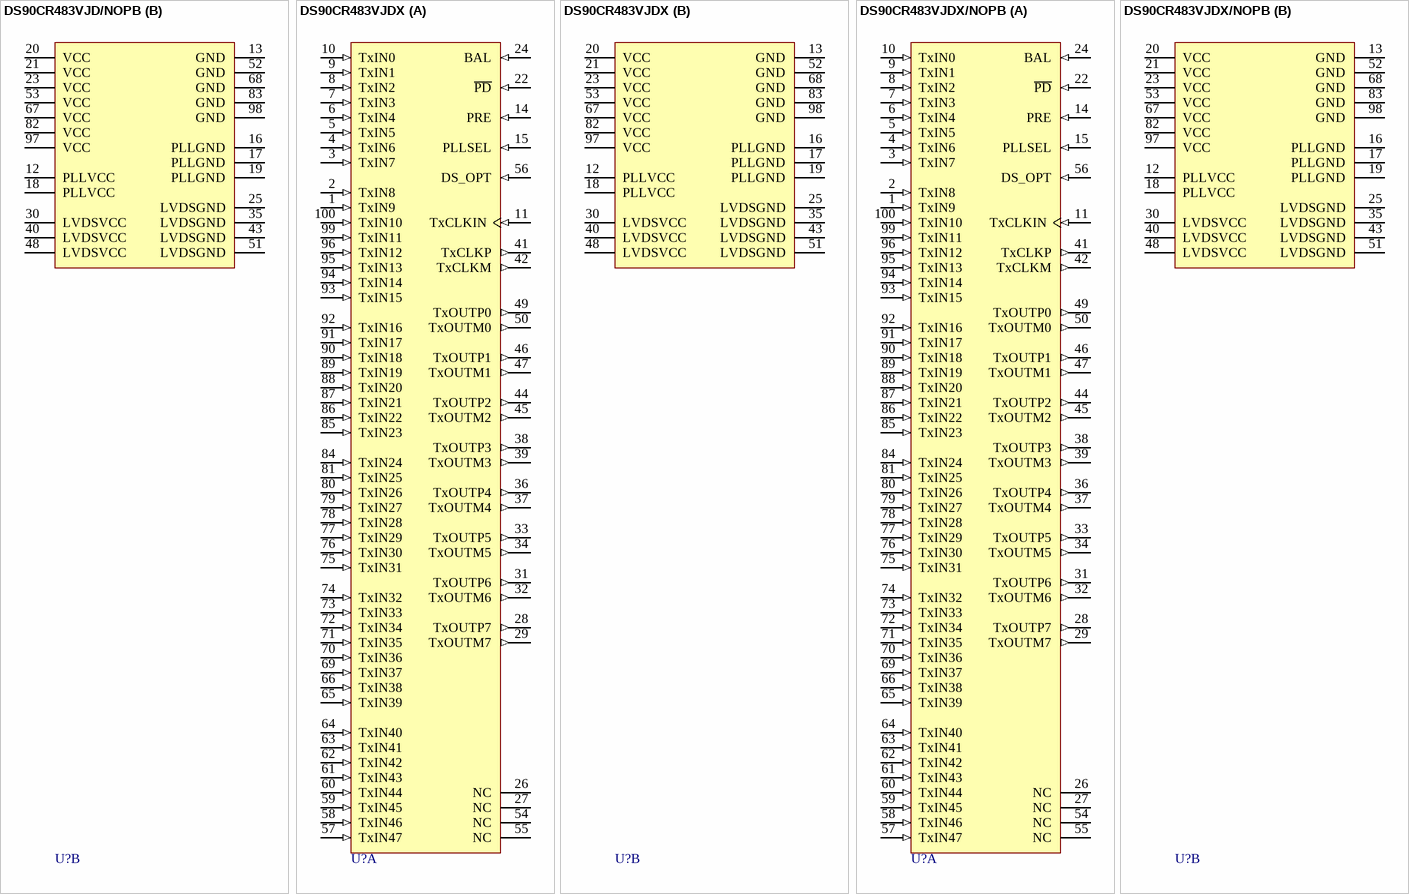
[diagram p52: symbols DS90CR483VJD/NOPB to DS90CR483VJDX/NOPB]

## DS90CR483VJD/NOPB
designator U?
48-Bit Channel Link Serializer - 33-112MHz, 100 pin TQFP; PartNumber: DS90CR483VJD/NOPB; Manufacturer: National Semiconductor; PackageTopMarking: NS2ZXYYTTE#*DS90CR483VJD*BBBBB; PowerWise: N; CompType: Interface IC; High-Reliability: Y; DatasheetVersion: Mar-2004; PackageVersion: revC, May-2004; PackageReference: VJD100A; PackageDescription: TQFP, Jedec, Metric, 14 x 14 x 1.0mm, 100 Lead; RoHS: Y; PinCount: 100; Code_JEDEC: MS-026-AED; ComponentLink1Description: Manufacturer URL; ComponentLink1URL: http://www.national.com/; ComponentLink2Description: DS90CR483 Datasheet; ComponentLink2URL: http://www.national.com/ds/DS/DS90CR483.pdf; ComponentLink3Description: DS90CR483 Web Page; ComponentLink3URL: http://www.national.com/pf/DS/DS90CR483.html; ComponentLink4Description: VJD100A Package Page; ComponentLink4URL: http://www.national.com/packaging/folders/vjd100a.html
footprint VJD100A_N (Thin QFP, 100-Leads, Body 14x14mm, Pitch 0.5mm, IPC Medium Density)
footprint VJD100A_L (Thin QFP, 100-Leads, Body 14x14mm, Pitch 0.5mm, IPC High Density)
footprint VJD100A_M (Thin QFP, 100-Leads, Body 14x14mm, Pitch 0.5mm, IPC Low Density)
part A pins: 1 TxIN9 (in), 2 TxIN8 (in), 3 TxIN7 (in), 4 TxIN6 (in), 5 TxIN5 (in), 6 TxIN4 (in), 7 TxIN3 (in), 8 TxIN2 (in), 9 TxIN1 (in), 10 TxIN0 (in), 11 TxCLKIN (in), 14 PRE (in), 15 PLLSEL (in), 22 ~{PD} (in), 24 BAL (in), 26 NC, 27 NC, 28 TxOUTP7 (out), 29 TxOUTM7 (out), 31 TxOUTP6 (out), 32 TxOUTM6 (out), 33 TxOUTP5 (out), 34 TxOUTM5 (out), 36 TxOUTP4 (out), 37 TxOUTM4 (out), 38 TxOUTP3 (out), 39 TxOUTM3 (out), 41 TxCLKP (out), 42 TxCLKM (out), 44 TxOUTP2 (out), 45 TxOUTM2 (out), 46 TxOUTP1 (out), 47 TxOUTM1 (out), 49 TxOUTP0 (out), 50 TxOUTM0 (out), 54 NC, 55 NC, 56 DS_OPT (in), 57 TxIN47 (in), 58 TxIN46 (in), 59 TxIN45 (in), 60 TxIN44 (in), 61 TxIN43 (in), 62 TxIN42 (in), 63 TxIN41 (in), 64 TxIN40 (in), 65 TxIN39 (in), 66 TxIN38 (in), 69 TxIN37 (in), 70 TxIN36 (in), 71 TxIN35 (in), 72 TxIN34 (in), 73 TxIN33 (in), 74 TxIN32 (in), 75 TxIN31 (in), 76 TxIN30 (in), 77 TxIN29 (in), 78 TxIN28 (in), 79 TxIN27 (in), 80 TxIN26 (in), 81 TxIN25 (in), 84 TxIN24 (in), 85 TxIN23 (in), 86 TxIN22 (in), 87 TxIN21 (in), 88 TxIN20 (in), 89 TxIN19 (in), 90 TxIN18 (in), 91 TxIN17 (in), 92 TxIN16 (in), 93 TxIN15 (in), 94 TxIN14 (in), 95 TxIN13 (in), 96 TxIN12 (in), 99 TxIN11 (in), 100 TxIN10 (in)
part B pins: 12 PLLVCC (power), 13 GND (power), 16 PLLGND (power), 17 PLLGND (power), 18 PLLVCC (power), 19 PLLGND (power), 20 VCC (power), 21 VCC (power), 23 VCC (power), 25 LVDSGND (power), 30 LVDSVCC (power), 35 LVDSGND (power), 40 LVDSVCC (power), 43 LVDSGND (power), 48 LVDSVCC (power), 51 LVDSGND (power), 52 GND (power), 53 VCC (power), 67 VCC (power), 68 GND (power), 82 VCC (power), 83 GND (power), 97 VCC (power), 98 GND (power)

## DS90CR483VJDX
designator U?
48-Bit Channel Link Serializer - 33-112MHz, 100 pin TQFP; PartNumber: DS90CR483VJDX; Manufacturer: National Semiconductor; PackageTopMarking: NS2ZXYYTTE#*DS90CR483VJD*BBBBB; PowerWise: N; CompType: Interface IC; High-Reliability: Y; DatasheetVersion: Mar-2004; PackageVersion: revC, May-2004; PackageReference: VJD100A; PackageDescription: TQFP, Jedec, Metric, 14 x 14 x 1.0mm, 100 Lead; RoHS: N; PinCount: 100; Code_JEDEC: MS-026-AED; ComponentLink1Description: Manufacturer URL; ComponentLink1URL: http://www.national.com/; ComponentLink2Description: DS90CR483 Datasheet; ComponentLink2URL: http://www.national.com/ds/DS/DS90CR483.pdf; ComponentLink3Description: DS90CR483 Web Page; ComponentLink3URL: http://www.national.com/pf/DS/DS90CR483.html; ComponentLink4Description: VJD100A Package Page; ComponentLink4URL: http://www.national.com/packaging/folders/vjd100a.html
footprint VJD100A_N (Thin QFP, 100-Leads, Body 14x14mm, Pitch 0.5mm, IPC Medium Density)
footprint VJD100A_L (Thin QFP, 100-Leads, Body 14x14mm, Pitch 0.5mm, IPC High Density)
footprint VJD100A_M (Thin QFP, 100-Leads, Body 14x14mm, Pitch 0.5mm, IPC Low Density)
part A pins: 1 TxIN9 (in), 2 TxIN8 (in), 3 TxIN7 (in), 4 TxIN6 (in), 5 TxIN5 (in), 6 TxIN4 (in), 7 TxIN3 (in), 8 TxIN2 (in), 9 TxIN1 (in), 10 TxIN0 (in), 11 TxCLKIN (in), 14 PRE (in), 15 PLLSEL (in), 22 ~{PD} (in), 24 BAL (in), 26 NC, 27 NC, 28 TxOUTP7 (out), 29 TxOUTM7 (out), 31 TxOUTP6 (out), 32 TxOUTM6 (out), 33 TxOUTP5 (out), 34 TxOUTM5 (out), 36 TxOUTP4 (out), 37 TxOUTM4 (out), 38 TxOUTP3 (out), 39 TxOUTM3 (out), 41 TxCLKP (out), 42 TxCLKM (out), 44 TxOUTP2 (out), 45 TxOUTM2 (out), 46 TxOUTP1 (out), 47 TxOUTM1 (out), 49 TxOUTP0 (out), 50 TxOUTM0 (out), 54 NC, 55 NC, 56 DS_OPT (in), 57 TxIN47 (in), 58 TxIN46 (in), 59 TxIN45 (in), 60 TxIN44 (in), 61 TxIN43 (in), 62 TxIN42 (in), 63 TxIN41 (in), 64 TxIN40 (in), 65 TxIN39 (in), 66 TxIN38 (in), 69 TxIN37 (in), 70 TxIN36 (in), 71 TxIN35 (in), 72 TxIN34 (in), 73 TxIN33 (in), 74 TxIN32 (in), 75 TxIN31 (in), 76 TxIN30 (in), 77 TxIN29 (in), 78 TxIN28 (in), 79 TxIN27 (in), 80 TxIN26 (in), 81 TxIN25 (in), 84 TxIN24 (in), 85 TxIN23 (in), 86 TxIN22 (in), 87 TxIN21 (in), 88 TxIN20 (in), 89 TxIN19 (in), 90 TxIN18 (in), 91 TxIN17 (in), 92 TxIN16 (in), 93 TxIN15 (in), 94 TxIN14 (in), 95 TxIN13 (in), 96 TxIN12 (in), 99 TxIN11 (in), 100 TxIN10 (in)
part B pins: 12 PLLVCC (power), 13 GND (power), 16 PLLGND (power), 17 PLLGND (power), 18 PLLVCC (power), 19 PLLGND (power), 20 VCC (power), 21 VCC (power), 23 VCC (power), 25 LVDSGND (power), 30 LVDSVCC (power), 35 LVDSGND (power), 40 LVDSVCC (power), 43 LVDSGND (power), 48 LVDSVCC (power), 51 LVDSGND (power), 52 GND (power), 53 VCC (power), 67 VCC (power), 68 GND (power), 82 VCC (power), 83 GND (power), 97 VCC (power), 98 GND (power)

## DS90CR483VJDX/NOPB
designator U?
48-Bit Channel Link Serializer - 33-112MHz, 100 pin TQFP; PartNumber: DS90CR483VJDX/NOPB; Manufacturer: National Semiconductor; PackageTopMarking: NS2ZXYYTTE#*DS90CR483VJD*BBBBB; PowerWise: N; CompType: Interface IC; High-Reliability: Y; DatasheetVersion: Mar-2004; PackageVersion: revC, May-2004; PackageReference: VJD100A; PackageDescription: TQFP, Jedec, Metric, 14 x 14 x 1.0mm, 100 Lead; RoHS: Y; PinCount: 100; Code_JEDEC: MS-026-AED; ComponentLink1Description: Manufacturer URL; ComponentLink1URL: http://www.national.com/; ComponentLink2Description: DS90CR483 Datasheet; ComponentLink2URL: http://www.national.com/ds/DS/DS90CR483.pdf; ComponentLink3Description: DS90CR483 Web Page; ComponentLink3URL: http://www.national.com/pf/DS/DS90CR483.html; ComponentLink4Description: VJD100A Package Page; ComponentLink4URL: http://www.national.com/packaging/folders/vjd100a.html
footprint VJD100A_N (Thin QFP, 100-Leads, Body 14x14mm, Pitch 0.5mm, IPC Medium Density)
footprint VJD100A_L (Thin QFP, 100-Leads, Body 14x14mm, Pitch 0.5mm, IPC High Density)
footprint VJD100A_M (Thin QFP, 100-Leads, Body 14x14mm, Pitch 0.5mm, IPC Low Density)
part A pins: 1 TxIN9 (in), 2 TxIN8 (in), 3 TxIN7 (in), 4 TxIN6 (in), 5 TxIN5 (in), 6 TxIN4 (in), 7 TxIN3 (in), 8 TxIN2 (in), 9 TxIN1 (in), 10 TxIN0 (in), 11 TxCLKIN (in), 14 PRE (in), 15 PLLSEL (in), 22 ~{PD} (in), 24 BAL (in), 26 NC, 27 NC, 28 TxOUTP7 (out), 29 TxOUTM7 (out), 31 TxOUTP6 (out), 32 TxOUTM6 (out), 33 TxOUTP5 (out), 34 TxOUTM5 (out), 36 TxOUTP4 (out), 37 TxOUTM4 (out), 38 TxOUTP3 (out), 39 TxOUTM3 (out), 41 TxCLKP (out), 42 TxCLKM (out), 44 TxOUTP2 (out), 45 TxOUTM2 (out), 46 TxOUTP1 (out), 47 TxOUTM1 (out), 49 TxOUTP0 (out), 50 TxOUTM0 (out), 54 NC, 55 NC, 56 DS_OPT (in), 57 TxIN47 (in), 58 TxIN46 (in), 59 TxIN45 (in), 60 TxIN44 (in), 61 TxIN43 (in), 62 TxIN42 (in), 63 TxIN41 (in), 64 TxIN40 (in), 65 TxIN39 (in), 66 TxIN38 (in), 69 TxIN37 (in), 70 TxIN36 (in), 71 TxIN35 (in), 72 TxIN34 (in), 73 TxIN33 (in), 74 TxIN32 (in), 75 TxIN31 (in), 76 TxIN30 (in), 77 TxIN29 (in), 78 TxIN28 (in), 79 TxIN27 (in), 80 TxIN26 (in), 81 TxIN25 (in), 84 TxIN24 (in), 85 TxIN23 (in), 86 TxIN22 (in), 87 TxIN21 (in), 88 TxIN20 (in), 89 TxIN19 (in), 90 TxIN18 (in), 91 TxIN17 (in), 92 TxIN16 (in), 93 TxIN15 (in), 94 TxIN14 (in), 95 TxIN13 (in), 96 TxIN12 (in), 99 TxIN11 (in), 100 TxIN10 (in)
part B pins: 12 PLLVCC (power), 13 GND (power), 16 PLLGND (power), 17 PLLGND (power), 18 PLLVCC (power), 19 PLLGND (power), 20 VCC (power), 21 VCC (power), 23 VCC (power), 25 LVDSGND (power), 30 LVDSVCC (power), 35 LVDSGND (power), 40 LVDSVCC (power), 43 LVDSGND (power), 48 LVDSVCC (power), 51 LVDSGND (power), 52 GND (power), 53 VCC (power), 67 VCC (power), 68 GND (power), 82 VCC (power), 83 GND (power), 97 VCC (power), 98 GND (power)

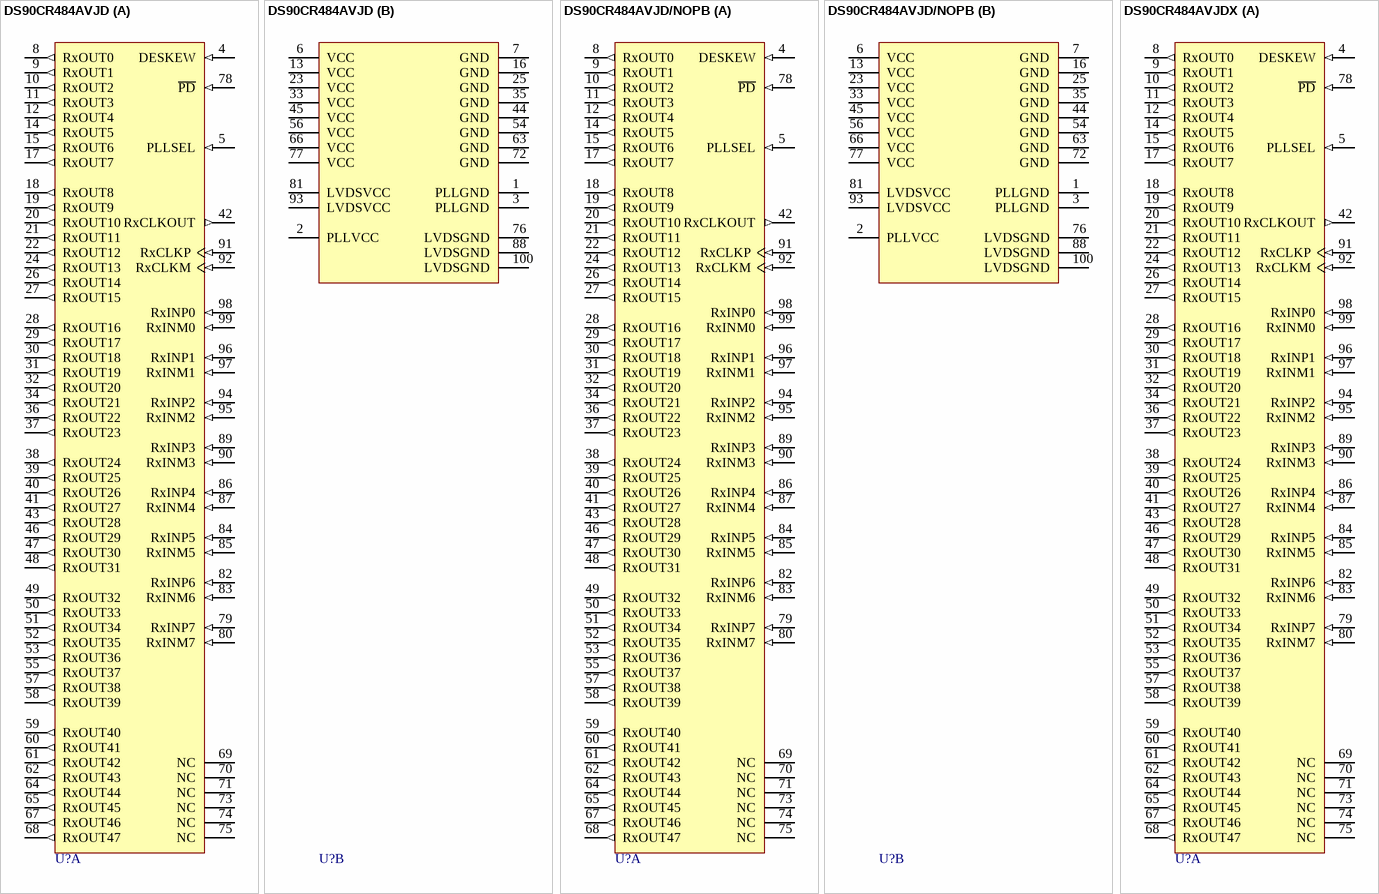
[diagram p53: symbols DS90CR484AVJD to DS90CR484AVJDX]

## DS90CR484AVJD
designator U?
48-Bit LVDS Channel Link SER/DES - 33 - 112 MHz, 100-pin TQFP; PartNumber: DS90CR484AVJD; Manufacturer: National Semiconductor; PackageTopMarking: NS2ZXYYTT*DS90CR484AVJD*BBBBB; PowerWise: N; CompType: Interface IC; High-Reliability: Y; DatasheetVersion: Apr-2008; PackageVersion: revC, May-2004; PackageReference: VJD100A; PackageDescription: TQFP, Jedec, Metric, 14 x 14 x 1.0mm, 100 Lead; RoHS: Y; PinCount: 100; Code_JEDEC: MS-026-AED; ComponentLink1Description: Manufacturer URL; ComponentLink1URL: http://www.national.com/; ComponentLink2Description: DS90CR484A Datasheet; ComponentLink2URL: http://www.national.com/ds/DS/DS90CR484A.pdf; ComponentLink3Description: DS90CR484A Web Page; ComponentLink3URL: http://www.national.com/pf/DS/DS90CR484A.html; ComponentLink4Description: VJD100A Package Page; ComponentLink4URL: http://www.national.com/packaging/folders/vjd100a.html
footprint VJD100A_N (Thin QFP, 100-Leads, Body 14x14mm, Pitch 0.5mm, IPC Medium Density)
footprint VJD100A_L (Thin QFP, 100-Leads, Body 14x14mm, Pitch 0.5mm, IPC High Density)
footprint VJD100A_M (Thin QFP, 100-Leads, Body 14x14mm, Pitch 0.5mm, IPC Low Density)
part A pins: 4 DESKEW (in), 5 PLLSEL (in), 8 RxOUT0 (out), 9 RxOUT1 (out), 10 RxOUT2 (out), 11 RxOUT3 (out), 12 RxOUT4 (out), 14 RxOUT5 (out), 15 RxOUT6 (out), 17 RxOUT7 (out), 18 RxOUT8 (out), 19 RxOUT9 (out), 20 RxOUT10 (out), 21 RxOUT11 (out), 22 RxOUT12 (out), 24 RxOUT13 (out), 26 RxOUT14 (out), 27 RxOUT15 (out), 28 RxOUT16 (out), 29 RxOUT17 (out), 30 RxOUT18 (out), 31 RxOUT19 (out), 32 RxOUT20 (out), 34 RxOUT21 (out), 36 RxOUT22 (out), 37 RxOUT23 (out), 38 RxOUT24 (out), 39 RxOUT25 (out), 40 RxOUT26 (out), 41 RxOUT27 (out), 42 RxCLKOUT (out), 43 RxOUT28 (out), 46 RxOUT29 (out), 47 RxOUT30 (out), 48 RxOUT31 (out), 49 RxOUT32 (out), 50 RxOUT33 (out), 51 RxOUT34 (out), 52 RxOUT35 (out), 53 RxOUT36 (out), 55 RxOUT37 (out), 57 RxOUT38 (out), 58 RxOUT39 (out), 59 RxOUT40 (out), 60 RxOUT41 (out), 61 RxOUT42 (out), 62 RxOUT43 (out), 64 RxOUT44 (out), 65 RxOUT45 (out), 67 RxOUT46 (out), 68 RxOUT47 (out), 69 NC, 70 NC, 71 NC, 73 NC, 74 NC, 75 NC, 78 ~{PD} (in), 79 RxINP7 (in), 80 RxINM7 (in), 82 RxINP6 (in), 83 RxINM6 (in), 84 RxINP5 (in), 85 RxINM5 (in), 86 RxINP4 (in), 87 RxINM4 (in), 89 RxINP3 (in), 90 RxINM3 (in), 91 RxCLKP (in), 92 RxCLKM (in), 94 RxINP2 (in), 95 RxINM2 (in), 96 RxINP1 (in), 97 RxINM1 (in), 98 RxINP0 (in), 99 RxINM0 (in)
part B pins: 1 PLLGND (power), 2 PLLVCC (power), 3 PLLGND (power), 6 VCC (power), 7 GND (power), 13 VCC (power), 16 GND (power), 23 VCC (power), 25 GND (power), 33 VCC (power), 35 GND (power), 44 GND (power), 45 VCC (power), 54 GND (power), 56 VCC (power), 63 GND (power), 66 VCC (power), 72 GND (power), 76 LVDSGND (power), 77 VCC (power), 81 LVDSVCC (power), 88 LVDSGND (power), 93 LVDSVCC (power), 100 LVDSGND (power)

## DS90CR484AVJD/NOPB
designator U?
48-Bit LVDS Channel Link SER/DES - 33 - 112 MHz, 100-pin TQFP, Pb-Free; PartNumber: DS90CR484AVJD/NOPB; Manufacturer: National Semiconductor; PackageTopMarking: NS2ZXYYTTE#*DS90CR484AVJD*BBBBB; PowerWise: N; CompType: Interface IC; High-Reliability: Y; DatasheetVersion: Apr-2008; PackageVersion: revC, May-2004; PackageReference: VJD100A; PackageDescription: TQFP, Jedec, Metric, 14 x 14 x 1.0mm, 100 Lead; RoHS: Y; PinCount: 100; Code_JEDEC: MS-026-AED; ComponentLink1Description: Manufacturer URL; ComponentLink1URL: http://www.national.com/; ComponentLink2Description: DS90CR484A Datasheet; ComponentLink2URL: http://www.national.com/ds/DS/DS90CR484A.pdf; ComponentLink3Description: DS90CR484A Web Page; ComponentLink3URL: http://www.national.com/pf/DS/DS90CR484A.html; ComponentLink4Description: VJD100A Package Page; ComponentLink4URL: http://www.national.com/packaging/folders/vjd100a.html
footprint VJD100A_N (Thin QFP, 100-Leads, Body 14x14mm, Pitch 0.5mm, IPC Medium Density)
footprint VJD100A_L (Thin QFP, 100-Leads, Body 14x14mm, Pitch 0.5mm, IPC High Density)
footprint VJD100A_M (Thin QFP, 100-Leads, Body 14x14mm, Pitch 0.5mm, IPC Low Density)
part A pins: 4 DESKEW (in), 5 PLLSEL (in), 8 RxOUT0 (out), 9 RxOUT1 (out), 10 RxOUT2 (out), 11 RxOUT3 (out), 12 RxOUT4 (out), 14 RxOUT5 (out), 15 RxOUT6 (out), 17 RxOUT7 (out), 18 RxOUT8 (out), 19 RxOUT9 (out), 20 RxOUT10 (out), 21 RxOUT11 (out), 22 RxOUT12 (out), 24 RxOUT13 (out), 26 RxOUT14 (out), 27 RxOUT15 (out), 28 RxOUT16 (out), 29 RxOUT17 (out), 30 RxOUT18 (out), 31 RxOUT19 (out), 32 RxOUT20 (out), 34 RxOUT21 (out), 36 RxOUT22 (out), 37 RxOUT23 (out), 38 RxOUT24 (out), 39 RxOUT25 (out), 40 RxOUT26 (out), 41 RxOUT27 (out), 42 RxCLKOUT (out), 43 RxOUT28 (out), 46 RxOUT29 (out), 47 RxOUT30 (out), 48 RxOUT31 (out), 49 RxOUT32 (out), 50 RxOUT33 (out), 51 RxOUT34 (out), 52 RxOUT35 (out), 53 RxOUT36 (out), 55 RxOUT37 (out), 57 RxOUT38 (out), 58 RxOUT39 (out), 59 RxOUT40 (out), 60 RxOUT41 (out), 61 RxOUT42 (out), 62 RxOUT43 (out), 64 RxOUT44 (out), 65 RxOUT45 (out), 67 RxOUT46 (out), 68 RxOUT47 (out), 69 NC, 70 NC, 71 NC, 73 NC, 74 NC, 75 NC, 78 ~{PD} (in), 79 RxINP7 (in), 80 RxINM7 (in), 82 RxINP6 (in), 83 RxINM6 (in), 84 RxINP5 (in), 85 RxINM5 (in), 86 RxINP4 (in), 87 RxINM4 (in), 89 RxINP3 (in), 90 RxINM3 (in), 91 RxCLKP (in), 92 RxCLKM (in), 94 RxINP2 (in), 95 RxINM2 (in), 96 RxINP1 (in), 97 RxINM1 (in), 98 RxINP0 (in), 99 RxINM0 (in)
part B pins: 1 PLLGND (power), 2 PLLVCC (power), 3 PLLGND (power), 6 VCC (power), 7 GND (power), 13 VCC (power), 16 GND (power), 23 VCC (power), 25 GND (power), 33 VCC (power), 35 GND (power), 44 GND (power), 45 VCC (power), 54 GND (power), 56 VCC (power), 63 GND (power), 66 VCC (power), 72 GND (power), 76 LVDSGND (power), 77 VCC (power), 81 LVDSVCC (power), 88 LVDSGND (power), 93 LVDSVCC (power), 100 LVDSGND (power)

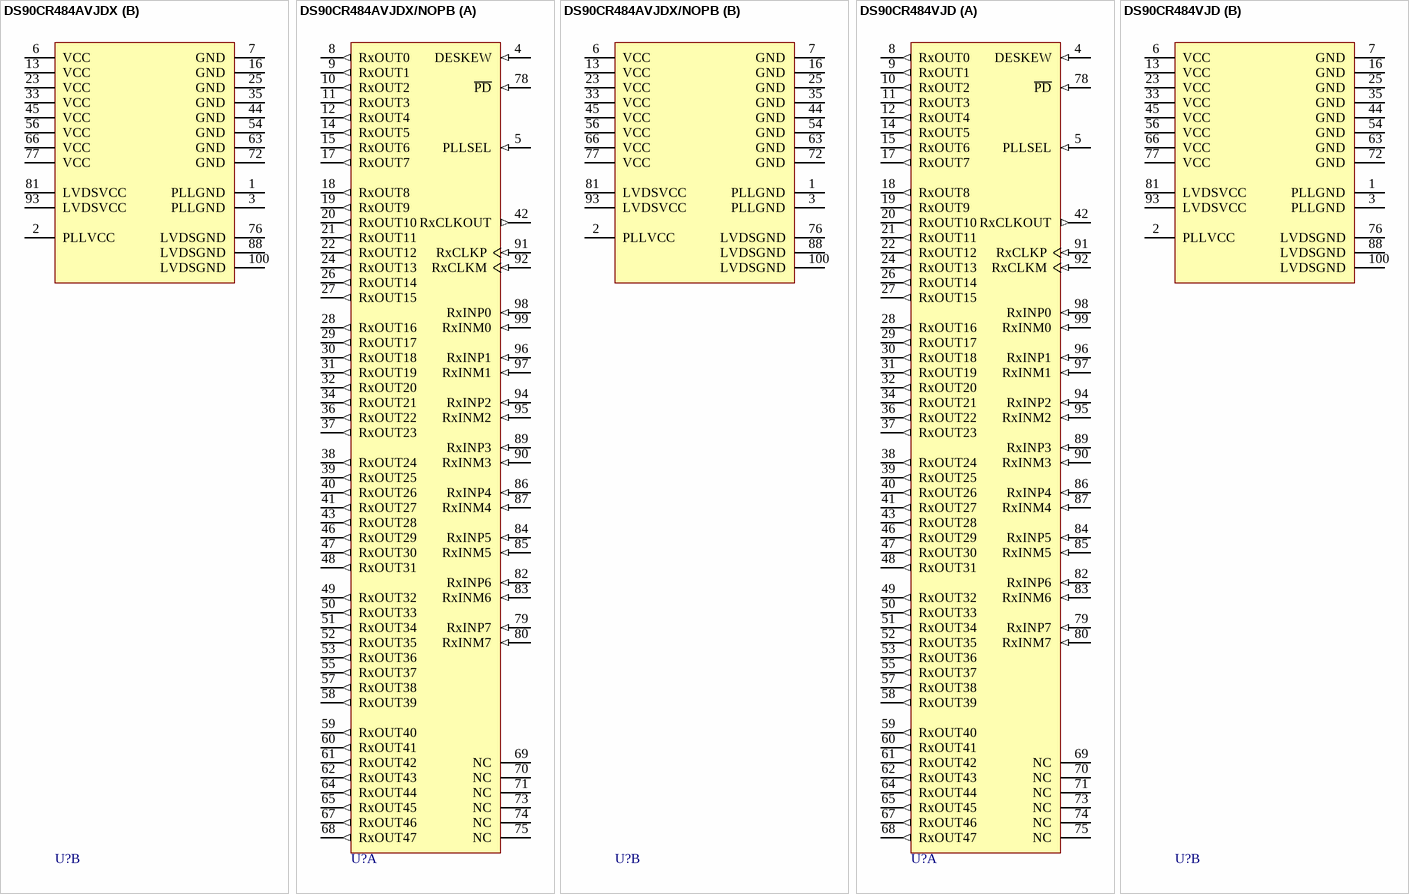
[diagram p54: symbols DS90CR484AVJDX to DS90CR484VJD]

## DS90CR484AVJDX
designator U?
48-Bit LVDS Channel Link SER/DES - 33 - 112 MHz, 100-pin TQFP; PartNumber: DS90CR484AVJDX; Manufacturer: National Semiconductor; PackageTopMarking: NS2UZXYYTT*DS90CR484AVJD*BBBBB; PowerWise: N; CompType: Interface IC; High-Reliability: Y; DatasheetVersion: Apr-2008; PackageVersion: revC, May-2004; PackageReference: VJD100A; PackageDescription: TQFP, Jedec, Metric, 14 x 14 x 1.0mm, 100 Lead; RoHS: Y; PinCount: 100; Code_JEDEC: MS-026-AED; ComponentLink1Description: Manufacturer URL; ComponentLink1URL: http://www.national.com/; ComponentLink2Description: DS90CR484A Datasheet; ComponentLink2URL: http://www.national.com/ds/DS/DS90CR484A.pdf; ComponentLink3Description: DS90CR484A Web Page; ComponentLink3URL: http://www.national.com/pf/DS/DS90CR484A.html; ComponentLink4Description: VJD100A Package Page; ComponentLink4URL: http://www.national.com/packaging/folders/vjd100a.html
footprint VJD100A_N (Thin QFP, 100-Leads, Body 14x14mm, Pitch 0.5mm, IPC Medium Density)
footprint VJD100A_L (Thin QFP, 100-Leads, Body 14x14mm, Pitch 0.5mm, IPC High Density)
footprint VJD100A_M (Thin QFP, 100-Leads, Body 14x14mm, Pitch 0.5mm, IPC Low Density)
part A pins: 4 DESKEW (in), 5 PLLSEL (in), 8 RxOUT0 (out), 9 RxOUT1 (out), 10 RxOUT2 (out), 11 RxOUT3 (out), 12 RxOUT4 (out), 14 RxOUT5 (out), 15 RxOUT6 (out), 17 RxOUT7 (out), 18 RxOUT8 (out), 19 RxOUT9 (out), 20 RxOUT10 (out), 21 RxOUT11 (out), 22 RxOUT12 (out), 24 RxOUT13 (out), 26 RxOUT14 (out), 27 RxOUT15 (out), 28 RxOUT16 (out), 29 RxOUT17 (out), 30 RxOUT18 (out), 31 RxOUT19 (out), 32 RxOUT20 (out), 34 RxOUT21 (out), 36 RxOUT22 (out), 37 RxOUT23 (out), 38 RxOUT24 (out), 39 RxOUT25 (out), 40 RxOUT26 (out), 41 RxOUT27 (out), 42 RxCLKOUT (out), 43 RxOUT28 (out), 46 RxOUT29 (out), 47 RxOUT30 (out), 48 RxOUT31 (out), 49 RxOUT32 (out), 50 RxOUT33 (out), 51 RxOUT34 (out), 52 RxOUT35 (out), 53 RxOUT36 (out), 55 RxOUT37 (out), 57 RxOUT38 (out), 58 RxOUT39 (out), 59 RxOUT40 (out), 60 RxOUT41 (out), 61 RxOUT42 (out), 62 RxOUT43 (out), 64 RxOUT44 (out), 65 RxOUT45 (out), 67 RxOUT46 (out), 68 RxOUT47 (out), 69 NC, 70 NC, 71 NC, 73 NC, 74 NC, 75 NC, 78 ~{PD} (in), 79 RxINP7 (in), 80 RxINM7 (in), 82 RxINP6 (in), 83 RxINM6 (in), 84 RxINP5 (in), 85 RxINM5 (in), 86 RxINP4 (in), 87 RxINM4 (in), 89 RxINP3 (in), 90 RxINM3 (in), 91 RxCLKP (in), 92 RxCLKM (in), 94 RxINP2 (in), 95 RxINM2 (in), 96 RxINP1 (in), 97 RxINM1 (in), 98 RxINP0 (in), 99 RxINM0 (in)
part B pins: 1 PLLGND (power), 2 PLLVCC (power), 3 PLLGND (power), 6 VCC (power), 7 GND (power), 13 VCC (power), 16 GND (power), 23 VCC (power), 25 GND (power), 33 VCC (power), 35 GND (power), 44 GND (power), 45 VCC (power), 54 GND (power), 56 VCC (power), 63 GND (power), 66 VCC (power), 72 GND (power), 76 LVDSGND (power), 77 VCC (power), 81 LVDSVCC (power), 88 LVDSGND (power), 93 LVDSVCC (power), 100 LVDSGND (power)

## DS90CR484AVJDX/NOPB
designator U?
48-Bit LVDS Channel Link SER/DES - 33 - 112 MHz, 100-pin TQFP, Pb-Free; PartNumber: DS90CR484AVJDX/NOPB; Manufacturer: National Semiconductor; PackageTopMarking: NS2UZXYYTT*DS90CR484AVJD*BBBBB; PowerWise: N; CompType: Interface IC; High-Reliability: Y; DatasheetVersion: Apr-2008; PackageVersion: revC, May-2004; PackageReference: VJD100A; PackageDescription: TQFP, Jedec, Metric, 14 x 14 x 1.0mm, 100 Lead; RoHS: Y; PinCount: 100; Code_JEDEC: MS-026-AED; ComponentLink1Description: Manufacturer URL; ComponentLink1URL: http://www.national.com/; ComponentLink2Description: DS90CR484A Datasheet; ComponentLink2URL: http://www.national.com/ds/DS/DS90CR484A.pdf; ComponentLink3Description: DS90CR484A Web Page; ComponentLink3URL: http://www.national.com/pf/DS/DS90CR484A.html; ComponentLink4Description: VJD100A Package Page; ComponentLink4URL: http://www.national.com/packaging/folders/vjd100a.html
footprint VJD100A_N (Thin QFP, 100-Leads, Body 14x14mm, Pitch 0.5mm, IPC Medium Density)
footprint VJD100A_L (Thin QFP, 100-Leads, Body 14x14mm, Pitch 0.5mm, IPC High Density)
footprint VJD100A_M (Thin QFP, 100-Leads, Body 14x14mm, Pitch 0.5mm, IPC Low Density)
part A pins: 4 DESKEW (in), 5 PLLSEL (in), 8 RxOUT0 (out), 9 RxOUT1 (out), 10 RxOUT2 (out), 11 RxOUT3 (out), 12 RxOUT4 (out), 14 RxOUT5 (out), 15 RxOUT6 (out), 17 RxOUT7 (out), 18 RxOUT8 (out), 19 RxOUT9 (out), 20 RxOUT10 (out), 21 RxOUT11 (out), 22 RxOUT12 (out), 24 RxOUT13 (out), 26 RxOUT14 (out), 27 RxOUT15 (out), 28 RxOUT16 (out), 29 RxOUT17 (out), 30 RxOUT18 (out), 31 RxOUT19 (out), 32 RxOUT20 (out), 34 RxOUT21 (out), 36 RxOUT22 (out), 37 RxOUT23 (out), 38 RxOUT24 (out), 39 RxOUT25 (out), 40 RxOUT26 (out), 41 RxOUT27 (out), 42 RxCLKOUT (out), 43 RxOUT28 (out), 46 RxOUT29 (out), 47 RxOUT30 (out), 48 RxOUT31 (out), 49 RxOUT32 (out), 50 RxOUT33 (out), 51 RxOUT34 (out), 52 RxOUT35 (out), 53 RxOUT36 (out), 55 RxOUT37 (out), 57 RxOUT38 (out), 58 RxOUT39 (out), 59 RxOUT40 (out), 60 RxOUT41 (out), 61 RxOUT42 (out), 62 RxOUT43 (out), 64 RxOUT44 (out), 65 RxOUT45 (out), 67 RxOUT46 (out), 68 RxOUT47 (out), 69 NC, 70 NC, 71 NC, 73 NC, 74 NC, 75 NC, 78 ~{PD} (in), 79 RxINP7 (in), 80 RxINM7 (in), 82 RxINP6 (in), 83 RxINM6 (in), 84 RxINP5 (in), 85 RxINM5 (in), 86 RxINP4 (in), 87 RxINM4 (in), 89 RxINP3 (in), 90 RxINM3 (in), 91 RxCLKP (in), 92 RxCLKM (in), 94 RxINP2 (in), 95 RxINM2 (in), 96 RxINP1 (in), 97 RxINM1 (in), 98 RxINP0 (in), 99 RxINM0 (in)
part B pins: 1 PLLGND (power), 2 PLLVCC (power), 3 PLLGND (power), 6 VCC (power), 7 GND (power), 13 VCC (power), 16 GND (power), 23 VCC (power), 25 GND (power), 33 VCC (power), 35 GND (power), 44 GND (power), 45 VCC (power), 54 GND (power), 56 VCC (power), 63 GND (power), 66 VCC (power), 72 GND (power), 76 LVDSGND (power), 77 VCC (power), 81 LVDSVCC (power), 88 LVDSGND (power), 93 LVDSVCC (power), 100 LVDSGND (power)

## DS90CR484VJD
designator U?
48-Bit Channel Link Deserializer - 33-112MHz, 100-pin TQFP; PartNumber: DS90CR484VJD; Manufacturer: National Semiconductor; PackageTopMarking: NS2ZXYYTTE#*DS90CR484VJD*BBBBB; PowerWise: N; CompType: Interface IC; High-Reliability: Y; DatasheetVersion: Mar-2004; PackageVersion: revC, May-2004; PackageReference: VJD100A; PackageDescription: TQFP, Jedec, Metric, 14 x 14 x 1.0mm, 100 Lead; RoHS: N; PinCount: 100; Code_JEDEC: MS-026-AED; ComponentLink1Description: Manufacturer URL; ComponentLink1URL: http://www.national.com/; ComponentLink2Description: DS90CR484 Datasheet; ComponentLink2URL: http://www.national.com/ds/DS/DS90CR484.pdf; ComponentLink3Description: DS90CR484 Web Page; ComponentLink3URL: http://www.national.com/pf/DS/DS90CR484.html; ComponentLink4Description: VJD100A Package Page; ComponentLink4URL: http://www.national.com/packaging/folders/vjd100a.html
footprint VJD100A_N (Thin QFP, 100-Leads, Body 14x14mm, Pitch 0.5mm, IPC Medium Density)
footprint VJD100A_L (Thin QFP, 100-Leads, Body 14x14mm, Pitch 0.5mm, IPC High Density)
footprint VJD100A_M (Thin QFP, 100-Leads, Body 14x14mm, Pitch 0.5mm, IPC Low Density)
part A pins: 4 DESKEW (in), 5 PLLSEL (in), 8 RxOUT0 (out), 9 RxOUT1 (out), 10 RxOUT2 (out), 11 RxOUT3 (out), 12 RxOUT4 (out), 14 RxOUT5 (out), 15 RxOUT6 (out), 17 RxOUT7 (out), 18 RxOUT8 (out), 19 RxOUT9 (out), 20 RxOUT10 (out), 21 RxOUT11 (out), 22 RxOUT12 (out), 24 RxOUT13 (out), 26 RxOUT14 (out), 27 RxOUT15 (out), 28 RxOUT16 (out), 29 RxOUT17 (out), 30 RxOUT18 (out), 31 RxOUT19 (out), 32 RxOUT20 (out), 34 RxOUT21 (out), 36 RxOUT22 (out), 37 RxOUT23 (out), 38 RxOUT24 (out), 39 RxOUT25 (out), 40 RxOUT26 (out), 41 RxOUT27 (out), 42 RxCLKOUT (out), 43 RxOUT28 (out), 46 RxOUT29 (out), 47 RxOUT30 (out), 48 RxOUT31 (out), 49 RxOUT32 (out), 50 RxOUT33 (out), 51 RxOUT34 (out), 52 RxOUT35 (out), 53 RxOUT36 (out), 55 RxOUT37 (out), 57 RxOUT38 (out), 58 RxOUT39 (out), 59 RxOUT40 (out), 60 RxOUT41 (out), 61 RxOUT42 (out), 62 RxOUT43 (out), 64 RxOUT44 (out), 65 RxOUT45 (out), 67 RxOUT46 (out), 68 RxOUT47 (out), 69 NC, 70 NC, 71 NC, 73 NC, 74 NC, 75 NC, 78 ~{PD} (in), 79 RxINP7 (in), 80 RxINM7 (in), 82 RxINP6 (in), 83 RxINM6 (in), 84 RxINP5 (in), 85 RxINM5 (in), 86 RxINP4 (in), 87 RxINM4 (in), 89 RxINP3 (in), 90 RxINM3 (in), 91 RxCLKP (in), 92 RxCLKM (in), 94 RxINP2 (in), 95 RxINM2 (in), 96 RxINP1 (in), 97 RxINM1 (in), 98 RxINP0 (in), 99 RxINM0 (in)
part B pins: 1 PLLGND (power), 2 PLLVCC (power), 3 PLLGND (power), 6 VCC (power), 7 GND (power), 13 VCC (power), 16 GND (power), 23 VCC (power), 25 GND (power), 33 VCC (power), 35 GND (power), 44 GND (power), 45 VCC (power), 54 GND (power), 56 VCC (power), 63 GND (power), 66 VCC (power), 72 GND (power), 76 LVDSGND (power), 77 VCC (power), 81 LVDSVCC (power), 88 LVDSGND (power), 93 LVDSVCC (power), 100 LVDSGND (power)

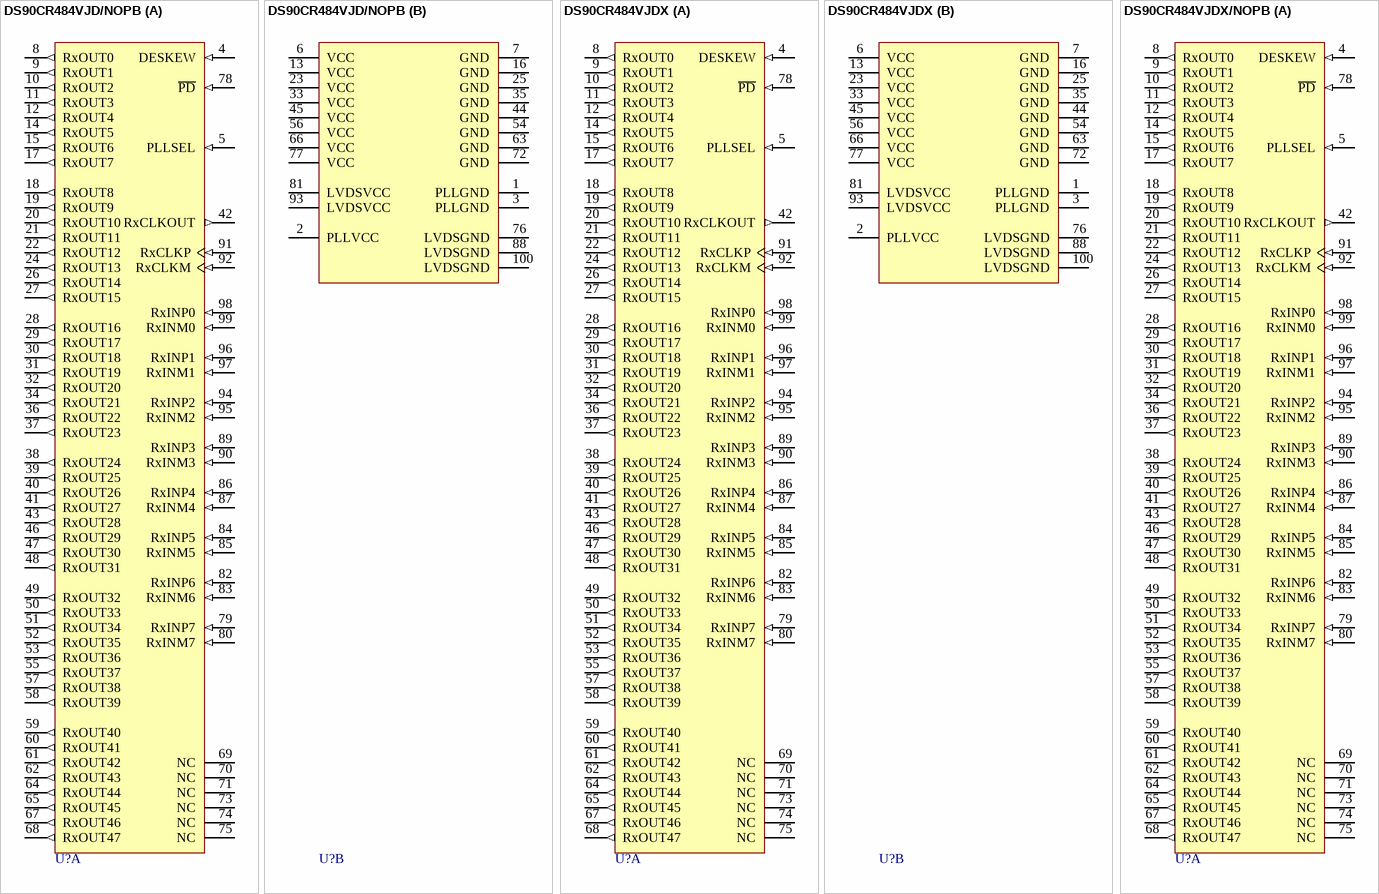
[diagram p55: symbols DS90CR484VJD/NOPB to DS90CR484VJDX/NOPB]